# Altium schematic symbol library Main.SchLib: 196 symbols (part 3 of 4)
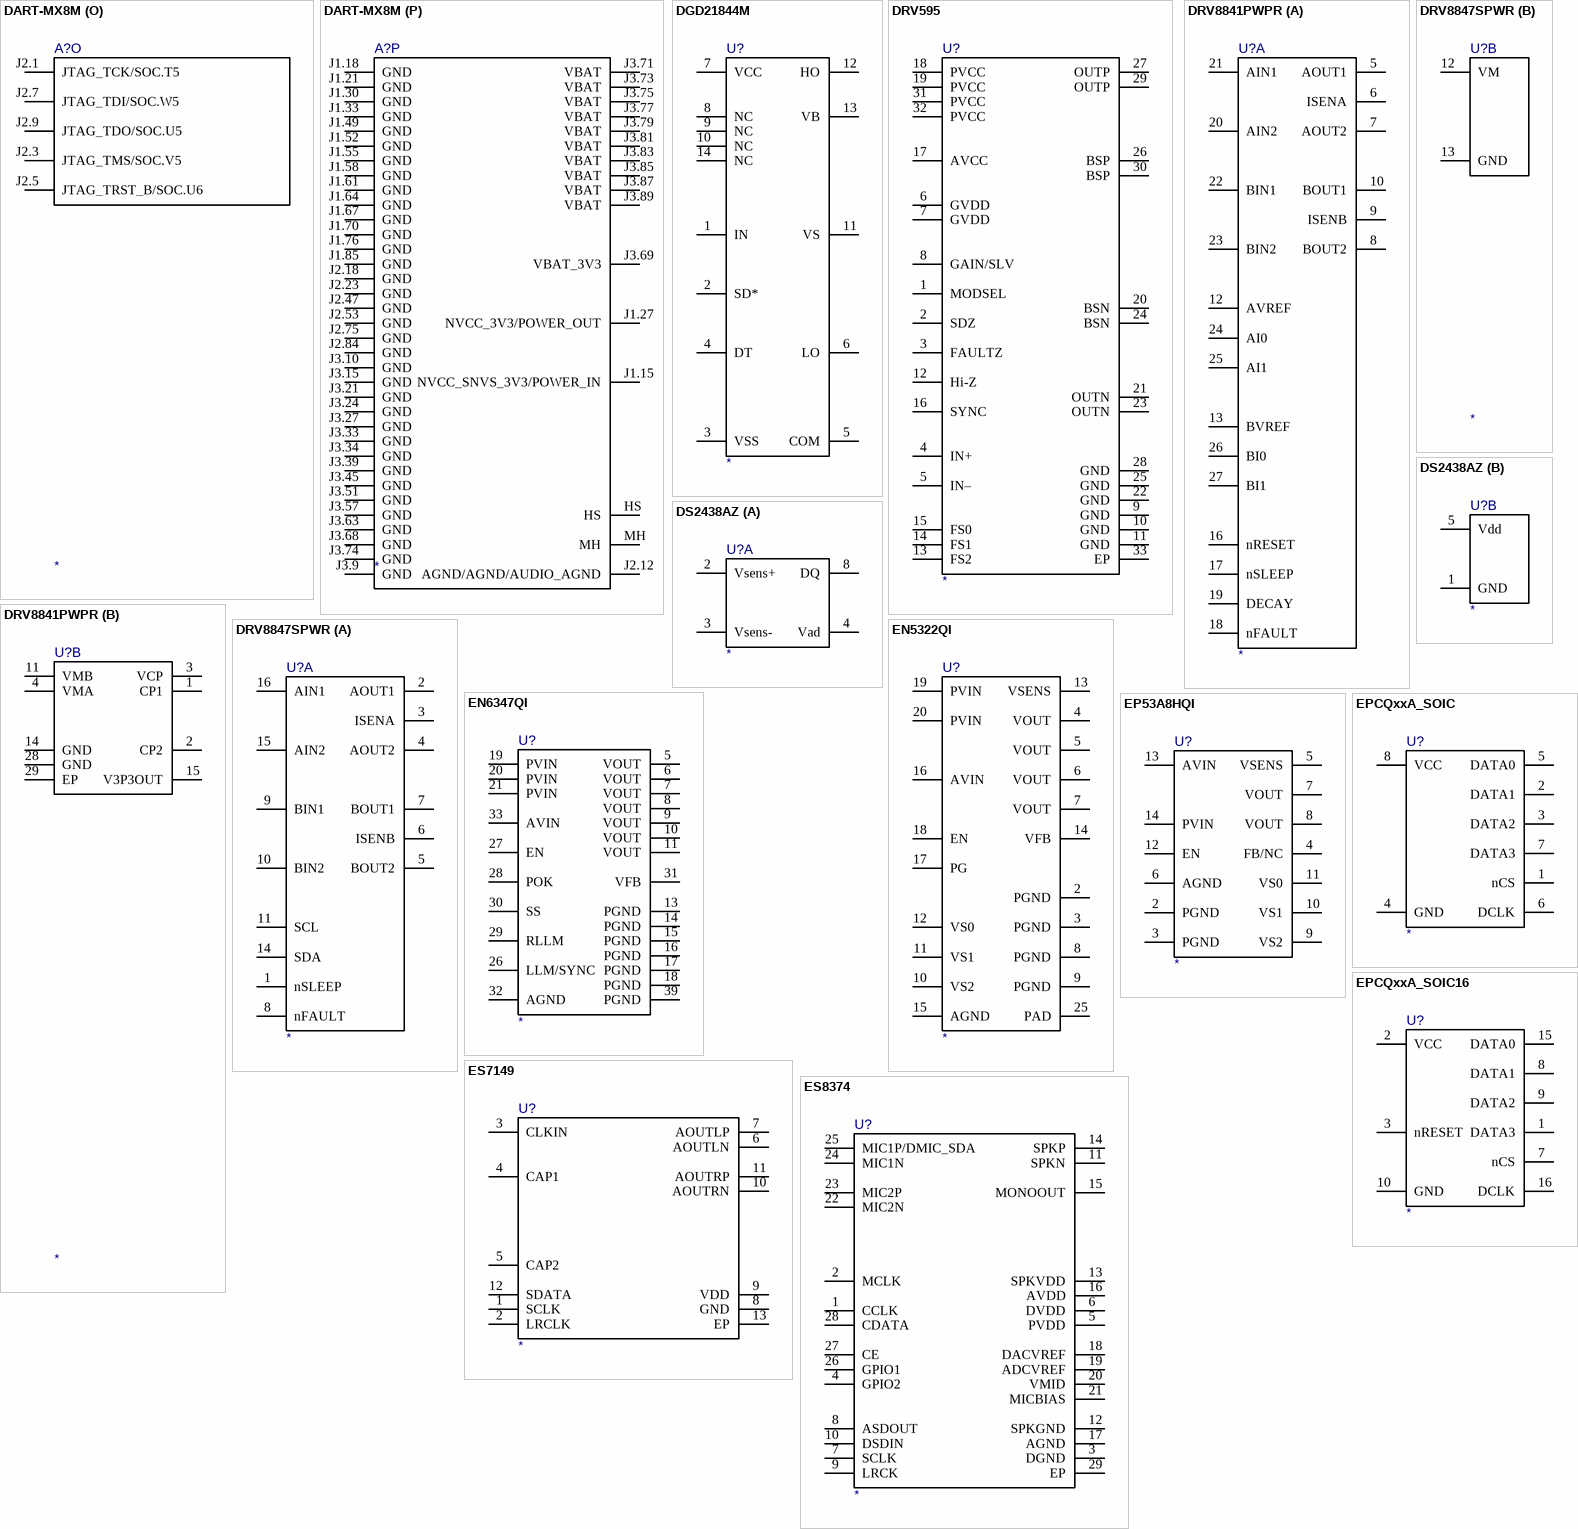
[diagram p42: symbols DART-MX8M to ES8374]

## DART-MX8M
designator A?
part A pins: J1.32 NAND_DATA01/QSPIA_DATA1/GPIO3_IO07/SOC.J20, J1.34 NAND_CEO_B/QSPIA_SSO_B/GPIO3_IO01/SOC.H19, J1.35 NAND_DATA07/QSPIB_DATA3/GPIO3_IO13/SOC.M19, J1.36 NAND_READY_B/GPIO3_IO16/SOC.K20, J1.37 NAND_DATA06/QSPIB_DATA2/GPIO3_IO12/SOC.L19, J1.38 NAND_DQS/QSPIA_DQS/GPIO3_IO14/SOC.M20, J1.39 NAND_DATA04/QSPIB_DATA0/GPIO3_IO10/SOC.L20, J1.40 NAND_ALE/QSPIA_SCLK/GPIO3_IO00/SOC.G19, J1.41 NAND_RE_B/QSPIB_DQS/GPIO3_IO15/SOC.K19, J1.42 NAND_WP_B/GPIO3_IO18/SOC.K21, J1.43 NAND_DATA05/QSPIB_DATA1/GPIO3_IO11/SOC.J22, J1.44 NAND_WE_B/GPIO3_IO17/SOC.K22, J1.45 NAND_CLE/QSPIB_SCLK/GPIO3_IO05/SOC.H21, J1.46 NAND_DATA03/QSPIA_DATA3/GPIO3_IO09/SOC.J21, J1.47 NAND_CE2_B/QSPIB_SSO_B/GPIO3_IO03/SOC.F21, J1.48 NAND_DATA00/QSPIA_DATA0/GPIO3_IO06/SOC.G20, J1.50 NAND_DATA02/QSPIA_DATA2/GPIO3_IO08/SOC.H22
part B pins: J1.20 ONOFF/SOC.W21, J1.22 PMIC_ON_REQ/SOC.V20, J1.23 BT_HOST_WA_KE/LWB5.46, J1.24 POR_B/SOC.W20, J1.25 WIFI_HOST_WAKE/LWB5.17, J1.26 PMIC_STBY_REQ/SOC.V21, J1.72 EN_VBAT_3V3, J2.11 BOOT_MODE1/SOC.V6, J2.13 BOOT_MODE0/SOC.W6
part C pins: J2.2 SAI3.RXD/GPT1_COMPARE1/SAI5_RXD0/GPIO4_IO30/HPLOUT/SOC.F3/WM8904.13, J2.4 SAI3_TXC/GPT1_COMPARE2/SAI5_RXD2/GPIO5_IO00/HPROUT/SOC.C4/WM8904.15, J2.6 SAI3_RXFS/GPT1_CAPTURE1/SAI5_RXFS/GPIO4_IO28/HPOUTFB/SOC.G4/WM8904.14, J2.8 SAI3_RXC/GPT1_CAPTURE2/SAI5_RXC/GPIO4_IO29/LINEIN1_LP/SOC.F4/WM8904.26, J2.10 SAI3_TXFS/GPT1_CLK/SAI5_RXD1/GPIO4_IO31/LINEIN1_RP/SOC.G3/WM8904.24, J2.14 SAI3_TXD/GPT1_COMPARE3/SAI5_RXD3/GPIO5J001/DMIC-CLK/SOC.C3/WM8904.1, J2.16 SAI3_MCLK/PWM4_OUT/SAI5_MCLK/GPIO5_IO02/DMIC_DATA_1V8/SOC.D3/WM8904.27, J2.34 SAI5_RXFS/SAI1_TXD0/GPIO3_IO19/SOC.N4, J2.36 SAI5_RXD0/SAI1_TXD2/GPIO3_IO21/SOC.M5, J2.38 SAI5_RXD2/SAI1_TXD4/SAI1_TXFS/SAI5_TXC/GPIO3_IO23/SOC.M4, J2.40 SAI5_RXC/SAI1_TXD1/GPIO3_IO20/SOC.L5, J2.42 SAI5_RXD1/SAI1_TXD3/SAI1_TXFS/SAI5_TXFS/GPIO3_IO22/SOC.L4, J2.44 SAI5_RXD3/SAI1_TXD5/SAI1_TXFS/SAI5_TXD0/GPIO3_IO24/SOC.K5, J2.46 SAI5_MCLK/SAI1_TXC/SAI4_MCLK/GPIO3_IO25/SOC.K4, J2.48 SAI2_RXFS/SAI5_TXFS/GPIO4_IO21/SOC.J4, J2.50 SAI2_RXC/SAI5_TXC/GPIO4_IO22/SOC.H3, J2.52 SAI2_TXFS/SAI5_TXD1/GPIO4_IO24/SOC.H4, J2.54 SAI2_MCLK/SAI5_MCLK/GPIO4_IO27/SOC.H5, J2.55 SAI1_RXFS/SAI5_RXFS/GPIO4_IO00/SOC.L1, J2.56 SAI2_TXC/SAI5_TXD2/GPIO4_IO25/SOC.J5, J2.57 SAI1_RXC/SAI5_RXC/GPIO4_IO01/SOC.K1, J2.58 SAI2_RXD0/SAI5_TXD0/GPIO4_IO23/SOC.H6, J2.59 SAI1_RXD1/SAI5_RXD1/GPIO4_IO03/BOOT_CFG01/SOC.L2, J2.60 SAI2_TXD0/SAI5_TXD3/GPIO4_IO26/SOC.G5, J2.61 SAI1_RXD0/SAI5_RXD0/GPIO4_IO02/BOOT_CFG00/SOC.K2, J2.62 SAI1_RXD3/SAI5_RXD3/GPIO4_IO05/BOOT_CFG03/SOC.J2, J2.63 SAI1_RXD2/SAI5_RXD2/GPIO4_IO04/BOOT_CFG02/SOC.H2, J2.64 SAI1_TXFS/SAI5_TXFS/GPIO4_IO10/SOC.H1, J2.65 SAI1_RXD4/SAI6_TXC/SAI6_RXC/GPIO4_IO06/BOOT_CFG04/SOC.J1, J2.66 SAI1_RXD6/SAI6_TXFS/SAI6_RXFS/GPIO4_IO08/BOOT_CFG06/SOC.G2, J2.67 SAI1_TXD1/SAI5_TXD1/GPIO4_IO13/BOOT_CFG09/SOC.E2, J2.68 SAI1_RXD7/SAI6_MCLK/SAI1_TXFS/SAI1_TXD4/GPIO4_IO09/BOOT_CFG07/SOC.G1, J2.69 SAI1_RXD5/SAI6_TXD0/SAI6_RXD0/SAI1_RXFS/GPIO4_IO07/BOOT_CFG05/SOC.F1, J2.70 SAI1_TXD0/SAI5_TXD0/GPIO4_IO12/BOOT_CFG08/SOC.F2, J2.71 SAI1_TXD5/SAI6_RXD0/SAI6_TXD0/GPIO4_IO17/BOOT_CFG13/SOC.C2, J2.72 SAI1_TXC/SAI5_TXC/GPIO4_IO11/SOC.E1, J2.73 SAI1_TXD3/SAI5_TXD3/GPIO4_IO15/BOOT_CFG11/SOC.D1, J2.74 SAI1_TXD4/SAI6_RXC/SAI6_TXC/GPIO4_IO16/BOOT_CFG12/SOC.D2, J2.76 SAI1_TXD7/SAI6_MCLK/GPIO4_IO19/BOOT_CFG15/SOC.C1, J2.78 SAI1_TXD2/SAI5_TXD2/GPIO4_IO14/BOOT_CFG10/SOC.B2, J2.80 SAI1_TXD6/SAI6_RXFS/SAI6_TXFS/GPIO4_IO18/BOOT_CFG14/SOC.B3, J2.82 SAI1_MCLK/SAI5_MCLK/SAI1_TXC/GPIO4_IO20/SOC.A3
part D pins: J1.28 SD2_RESET_B/GPIO2_IO19/SOC.R22, J1.29 SD2_WP/GPIO2_IO20/SOC.M21, J1.74 SD2_CD_B/GPIO2_IO12/SOC.L21, J1.78 SD2_DATA2/GPIO2JO17/SOC.P22/SDIOMUX, J1.80 SD2_DATA1/GPIO2_IO16/SOC.N21/SDIOMUX, J1.82 SD2_CLK/GPIO2_IO13/SOC.L22/SDIOMUX, J1.84 SD2_DATA3/GPIO2_IO18/SOC.P21/SDIOMUX, J1.86 SD2_DATA0/GPIO2_IO15/SOC.N22/SDIOMUX, J1.88 SD2_CMD/GPIO2_IO14/SOC.M22/SDIOMUX, J1.90 NVCC_SD2_1V8_3_V3/POWER_OUT
part E pins: J1.1 GPIO1_IO00/REF_CLK_32K/SOC.T6, J2.28 GPIO1_IO02/WDOG_B/SOC.R4, J3.30 GPIO1_IO11/USB2_OTG_ID/PMIC_READY/SOC.L6, J3.38 GPIO1_IO15/USB2_OTG_OC/PWM4_OUT/CLK02/SOC.J6, J3.40 GPIO1_IO13/USB1_OTG_OC/PWM2_OUT/SOC.K6, J3.48 GPIO1_IO14/USB2_OTG_PWR/PWM3_OUT/SOC.K7, J3.50 GPIO1_IO12/USB1_OTG_PWR/SOC.L7, J3.52 GPIO1_IO10/USB1_OTG_ID/SOC.M7, J3.54 GPIO1_IO03/USDHC1_VSELECT/XTAL_OK/SOC.P4, J3.58 GPIO1_IO06/SD1_CD_B/EXT_CLK3/SOC.N5, J3.60 GPIO1_IO08/ENET_1588_EVENT_0_IN/SD2_RESET_B/SOC.N7, J3.62 GPIO1_IO05/M4_NMI/PMIC_READY/SOC.P7, J3.64 GPIO1_IO01/PWM1_OUT/REF_CLK_24M/EXT_CLK2/SOC.T7
part F pins: J1.69 CSI_P1_DP3/SOC.D21, J1.71 CSI_P1_DN3/SOC.C21, J1.73 CSI_P1_DP1/SOC.D22, J1.75 CSI_P1_DN1/SOC.C22, J1.77 CSI_P1_DN2/SOC.B24, J1.79 CSI_P1_DP2/SOC.C23, J1.81 CSI_P1_DP0/SOC.B23, J1.83 CSI_P1_DN0/SOC.A23, J1.87 CSI_P1_CKP/SOC.B22, J1.89 CSI_P1_CKN/SOC.A22, J3.70 CSI_P2_CKN/SOC.A19, J3.72 CSI_P2_CKP/SOC.B19, J3.76 CSI_P2_DN3/SOC.C19, J3.78 CSI_P2_DP3/SOC.D19, J3.80 CSI_P2_DN1/SOC.A20, J3.82 CSI_P2_DP1/SOC.B20, J3.84 CSI_P2_DN0/SOC.C20, J3.86 CSI_P2_DP0/SOC.D20, J3.88 CSI_P2_DN2/SOC.A21, J3.90 CSI_P2_DP2/SOC.B21
part G pins: J1.2 ENET_TD1/GPIO1_IO20/ETH_TRX1_P/SOC.R21/AR8033.14, J1.3 ENET_TX_CTL/GPIO1_IO22/SOC.P19, J1.4 ENET_TD0/GPIO1_IO21/ETH_TRX1_N/SOC.R20/AR8033.15, J1.5 ENET_TXC/GPIO1_IO23/LED_LINK10_100/SOC.T19/AR8033.26, J1.6 ENET_TD2/GPIO1_IO19/ETH_TRXO_N/SOC.R19/AR8033.12, J1.7 ENET_RXC/GPIO1_IO25/LED_LINK1000/SOC.T20/AR8033.24, J1.8 ENET_TD3/GPIO1_IO18/ETH_TRXO_P/SOC.P20/AR8033.11, J1.9 ENET_RX_CTL/GPIO1_IO24/LED_ACT/SOC.T21/AR8033.23, J1.10 ENET_RD0/GPIO1_IO26/ETH_TRX2_P/SOC.U19/AR8033.17, J1.11 ENET_MDIO/GPIO1_IO17/SOC.N19, J1.12 ENET_RD1/GPIO1_IO27/ETH_TRX2_N/SOC.U21/AR8033.18, J1.13 ENET_MDC/GPIO1_IO16/SOC.N20, J1.14 ENET_RD2/GPIO1_IO28/ETH_TRX3_P/SOC.U20/AR8033.20, J1.16 ENET_RD3/GPIO1_IO29/ETH_TRX3_N/SOC.V19/AR8033.21, J1.31 NVCC_ENET
part H pins: J3.12 DSI_TX0_P/LVDS2_TX0_P/SOC.B17/SN65DSI84.B3, J3.14 DSI_TX0_N/LVDS2_TX0_N/SOC.A17/SN65DSI84.A3, J3.16 DSI_TX1_P/LVDS2_TX1_P/SOC.B16/SN65DSI84.B4, J3.18 DSI_TX1_N/LVDS2_TX1_N/SOC.A16/SN65DSI84.A4, J3.20 DSI_TX3_P/LVDS2_TX3_P/SOC.B15/SN65DSI84.B7, J3.22 DSI_TX3_N/LVDS2_TX3_N/SOC.A15/SN65DSI84.A7, J3.23 DSI_TX2_P/LVDS2_CLK_P/SOC.B18/SN65DSI84.B6, J3.25 DSI_TX2_N/LVDS2_CLK_N/SOC.A18/SN65DSI84.A6, J3.29 DSI_CLK_N/LVDS2_TX2_N/SOC.C16/SN65DSI84.A5, J3.31 DSI_CLK_P/LVDS2_TX2_P/SOC.D16/SN65DSI84.B5
part I pins: J3.2 LVDS1_TX0_P/SN65DSI84.C8, J3.4 LVDS1_TX0_N/SN65DSI84.C9, J3.5 LVDS1_TX2_P/SN65DSI84.E8, J3.6 LVDS1_TX1_P/SN65DSI84.D8, J3.7 LVDS1_TX2_N/SN65DSI84.E9, J3.8 LVDS1_TX1_N/SN65DSI84.D9, J3.11 LVDS1_CLK_P/SN65DSI84.F8, J3.13 LVDS1_CLK_N/SN65DSI84.F9, J3.17 LVDS1_TX3_P/SN65DSI84.G8, J3.19 LVDS1_TX3_N/SN65DSI84.G9
part J pins: J2.15 HDMI_DDC_SCL/SOC.R3, J2.17 HDMI_DDC_SDA/SOC.P3, J2.19 HDMI_CEC/SOC.W3, J2.21 HDMI_HPD/SOC.W2, J2.25 HDMI_AUX_P/SOC.V1, J2.27 HDMI_AUX_N/SOC.V2, J2.29 HDMI_TX_M_LN_1/SOC.U1, J2.31 HDMI_TX_P_LN_1/SOC.U2, J2.33 HDMI_TX_P_LN_0/SOC.T1, J2.35 HDMI_TX_M_LN_0/SOC.T2, J2.37 HDMI_REFCLK_N/SOC.R1, J2.39 HDMI_REFCLK_P/SOC.R2, J2.41 VDD_PHY_1V8/POWER_OUT, J2.43 HDMI_TX_P_LN_2/SOC.N2, J2.45 HDMI_TX_M_LN_2/SOC.N1, J2.49 HDMI_TX_P_LN_3/SOC.M1, J2.51 HDMI_TX_M_LN_3/SOC.M2
part K pins: J2.20 ECSPI2_MOSI/UART4_TXD/GPIO5_IO11/SOC.E5, J2.22 ECSPI2_MISO/UART4_CTS_B/GPIO5_IO12/SOC.B5, J2.24 ECSPI2_SCLK/UART4_RXD/GPIO5_IO10/SOC.C5, J2.26 ECSPI2_SS0/UART4_RTS_B/GPIO5_IO13/SOC.A5, J2.77 ECSPI1_SCLK/UART3_RX/GPIO5_IO06/SOC.D5, J2.79 ECSPI1_SS0/UART3_RTS_B/GPIO5_IO09/SOC.D4, J2.81 ECSPI1_MISO/UART3_CTS_B/GPIO5_IO08/SOC.B4, J2.83 ECSPI1_MOSI/UART3_TX/GPIO5_IO07/SOC.A4
part L pins: J3.26 USB2_VBUS/SOC.D9, J3.35 USB2_RXN/SOC.B8, J3.37 USB2_RXP/SOC.A8, J3.41 USB2_TXN/SOC.B9, J3.43 USB2_TXP/SOC.A9, J3.44 USB2_ID/SOC.C9, J3.47 USB2_DP/SOC.A10, J3.49 USB2_DN/SOC.B10, J3.53 USB1_RXN/SOC.B12, J3.55 USB1_RXP/SOC.A12, J3.56 USB1_ID/SOC.C14, J3.59 USB1_TXN/SOC.B13, J3.61 USB1_TXP/SOC.A13, J3.65 USB1_DP/SOC.A14, J3.66 USB1_VBUS/SOC.D14, J3.67 USB1_DN/SOC.B14
part M pins: J1.51 PCIE1_REF_CLKN/SOC.K24, J1.53 PCIE1_REF_CLKP/SOC.K25, J1.54 PCIE2_REF_CLKN/SOC.F24, J1.56 PCIE2_REF_CLKP/SOC.F25, J1.57 PCIE1_TXN/SOC.J24, J1.59 PCIE1_TXP/SOC.J25, J1.60 PCIE1_RXN/SOC.H24, J1.62 PCIE1_RXP/SOC.H25, J1.63 PCIE2_RXN/SOC.D24, J1.65 PCIE2_RXP/SOC.D25, J1.66 PCIE2_TXN/SOC.E24, J1.68 PCIE2_TXP/SOC.E25
part N pins: J1.17 I2C4_SCL/PWM2_OUT/PCIE1_CLKREQ_B/GPIO5_IO20/SOC.F8, J1.19 I2C4_SDA/PWM1_OUT/PCIE2_CLKREQ_B/GPIO5_IO21/SOC.F9, J2.30 I2C2_SDA/ENET_1588_EVEN_T1_OUT/GPIO5_IO17/SOC.F7, J2.32 I2C2_SCL/ENET_1588_EVEN_T1_IN/GPIO5_IO16/SOC.G7, J2.85 UART2_RXD/ECSPI3_MISO/GPIO5_IO24/SOC.B6, J2.86 UART2_TXD/ECSPI3_SSO/GPIO5_IO25/SOC.D6, J2.87 UART3_RXD/UART1_CTS_B/GPIO5_IO26/SOC.A6, J2.88 UART1_RXD/ECSPI3_SCLK/GPIO5_IO22/SOC.C7, J2.89 UART3_TXD/UART1_RTS_B/GPIO5_IO27/SOC.B7, J2.90 UART1_TXD/ECSPI3_MOSI/GPIO5_IO23/SOC.A7, J3.1 UART4_TXD/UART2_RTS_B/PCIE2_CLKREQ_B/GPIO5_IO29/SOC.D7, J3.3 UART4_RXD/UART2_CTS_B/PCIE1_CLKREQ_B/GPIO5_IO28/SOC.C6, J3.28 SPDIF_RX/PWM2_OUT/GPIO5_IO04/SOC.G6, J3.32 SPDIF_EXT_CLK/PWM1_OUT/GPIO5_IO05/SOC.E6, J3.36 SPDIF_TX/PWM3_OUT/GPIO5_IO03/SOC.F6, J3.42 I2C3_SDA/PWM3_OUT/GPT3_CLK/GPIO5_IO19/SOC.E9, J3.46 I2C3_SCL/PWM4_OUT/GPT2_CLK/GPIO5_IO18/SOC.G8
part O pins: J2.1 JTAG_TCK/SOC.T5, J2.3 JTAG_TMS/SOC.V5, J2.5 JTAG_TRST_B/SOC.U6, J2.7 JTAG_TDI/SOC.W5, J2.9 JTAG_TDO/SOC.U5
part P pins: HS, J1.15 NVCC_SNVS_3V3/POWER_IN, J1.18 GND, J1.21 GND, J1.27 NVCC_3V3/POWER_OUT, J1.30 GND, J1.33 GND, J1.49 GND, J1.52 GND, J1.55 GND, J1.58 GND, J1.61 GND, J1.64 GND, J1.67 GND, J1.70 GND, J1.76 GND, J1.85 GND, J2.12 AGND/AGND/AUDIO_AGND, J2.18 GND, J2.23 GND, J2.47 GND, J2.53 GND, J2.75 GND, J2.84 GND, J3.9 GND, J3.10 GND, J3.15 GND, J3.21 GND, J3.24 GND, J3.27 GND, J3.33 GND, J3.34 GND, J3.39 GND, J3.45 GND, J3.51 GND, J3.57 GND, J3.63 GND, J3.68 GND, J3.69 VBAT_3V3, J3.71 VBAT, J3.73 VBAT, J3.74 GND, J3.75 VBAT, J3.77 VBAT, J3.79 VBAT, J3.81 VBAT, J3.83 VBAT, J3.85 VBAT, J3.87 VBAT, J3.89 VBAT, MH

## DGD21844M
designator U?
pins: 1 IN, 2 SD*, 3 VSS, 4 DT, 5 COM, 6 LO, 7 VCC, 8 NC, 9 NC, 10 NC, 11 VS, 12 HO, 13 VB, 14 NC

## DRV595
designator U?
pins: 1 MODSEL, 2 SDZ, 3 FAULTZ, 4 IN+, 5 IN–, 6 GVDD, 7 GVDD, 8 GAIN/SLV, 9 GND, 10 GND, 11 GND, 12 Hi-Z, 13 FS2, 14 FS1, 15 FS0, 16 SYNC, 17 AVCC, 18 PVCC, 19 PVCC, 20 BSN, 21 OUTN, 22 GND, 23 OUTN, 24 BSN, 25 GND, 26 BSP, 27 OUTP, 28 GND, 29 OUTP, 30 BSP, 31 PVCC, 32 PVCC, 33 EP

## DRV8841PWPR
designator U?
part A pins: 5 AOUT1, 6 ISENA, 7 AOUT2, 8 BOUT2, 9 ISENB, 10 BOUT1, 12 AVREF, 13 BVREF, 16 nRESET, 17 nSLEEP, 18 nFAULT, 19 DECAY, 20 AIN2, 21 AIN1, 22 BIN1, 23 BIN2, 24 AI0, 25 AI1, 26 BI0, 27 BI1
part B pins: 1 CP1, 2 CP2, 3 VCP, 4 VMA, 11 VMB, 14 GND, 15 V3P3OUT, 28 GND, 29 EP

## DRV8847SPWR
designator U?
part A pins: 1 nSLEEP, 2 AOUT1, 3 ISENA, 4 AOUT2, 5 BOUT2, 6 ISENB, 7 BOUT1, 8 nFAULT, 9 BIN1, 10 BIN2, 11 SCL, 14 SDA, 15 AIN2, 16 AIN1
part B pins: 12 VM, 13 GND

## DS2438AZ
designator U?
part A pins: 2 Vsens+, 3 Vsens-, 4 Vad, 8 DQ
part B pins: 1 GND, 5 Vdd

## EN5322QI
designator U?
pins: 2 PGND (power), 3 PGND (power), 4 VOUT, 5 VOUT, 6 VOUT, 7 VOUT, 8 PGND (power), 9 PGND (power), 10 VS2, 11 VS1, 12 VS0, 13 VSENS, 14 VFB, 15 AGND (power), 16 AVIN, 17 PG, 18 EN, 19 PVIN, 20 PVIN, 25 PAD (power)

## EN6347QI
designator U?
pins: 5 VOUT, 6 VOUT, 7 VOUT, 8 VOUT, 9 VOUT, 10 VOUT, 11 VOUT, 13 PGND, 14 PGND, 15 PGND, 16 PGND, 17 PGND, 18 PGND, 19 PVIN, 20 PVIN, 21 PVIN, 26 LLM/SYNC, 27 EN, 28 POK, 29 RLLM, 30 SS, 31 VFB, 32 AGND, 33 AVIN, 39 PGND

## EP53A8HQI
designator U?
pins: 2 PGND (power), 3 PGND (power), 4 FB/NC, 5 VSENS, 6 AGND (power), 7 VOUT, 8 VOUT, 9 VS2, 10 VS1, 11 VS0, 12 EN, 13 AVIN, 14 PVIN

## EPCQxxA_SOIC
designator U?
pins: 1 nCS, 2 DATA1, 3 DATA2, 4 GND, 5 DATA0, 6 DCLK, 7 DATA3, 8 VCC

## EPCQxxA_SOIC16
designator U?
pins: 1 DATA3, 2 VCC, 3 nRESET, 7 nCS, 8 DATA1, 9 DATA2, 10 GND, 15 DATA0, 16 DCLK

## ES7149
designator U?
pins: 1 SCLK, 2 LRCLK, 3 CLKIN, 4 CAP1, 5 CAP2, 6 AOUTLN, 7 AOUTLP, 8 GND, 9 VDD, 10 AOUTRN, 11 AOUTRP, 12 SDATA, 13 EP

## ES8374
designator U?
pins: 1 CCLK, 2 MCLK, 3 DGND, 4 GPIO2, 5 PVDD, 6 DVDD, 7 SCLK, 8 ASDOUT, 9 LRCK, 10 DSDIN, 11 SPKN, 12 SPKGND, 13 SPKVDD, 14 SPKP, 15 MONOOUT, 16 AVDD, 17 AGND, 18 DACVREF, 19 ADCVREF, 20 VMID, 21 MICBIAS, 22 MIC2N, 23 MIC2P, 24 MIC1N, 25 MIC1P/DMIC_SDA, 26 GPIO1, 27 CE, 28 CDATA, 29 EP

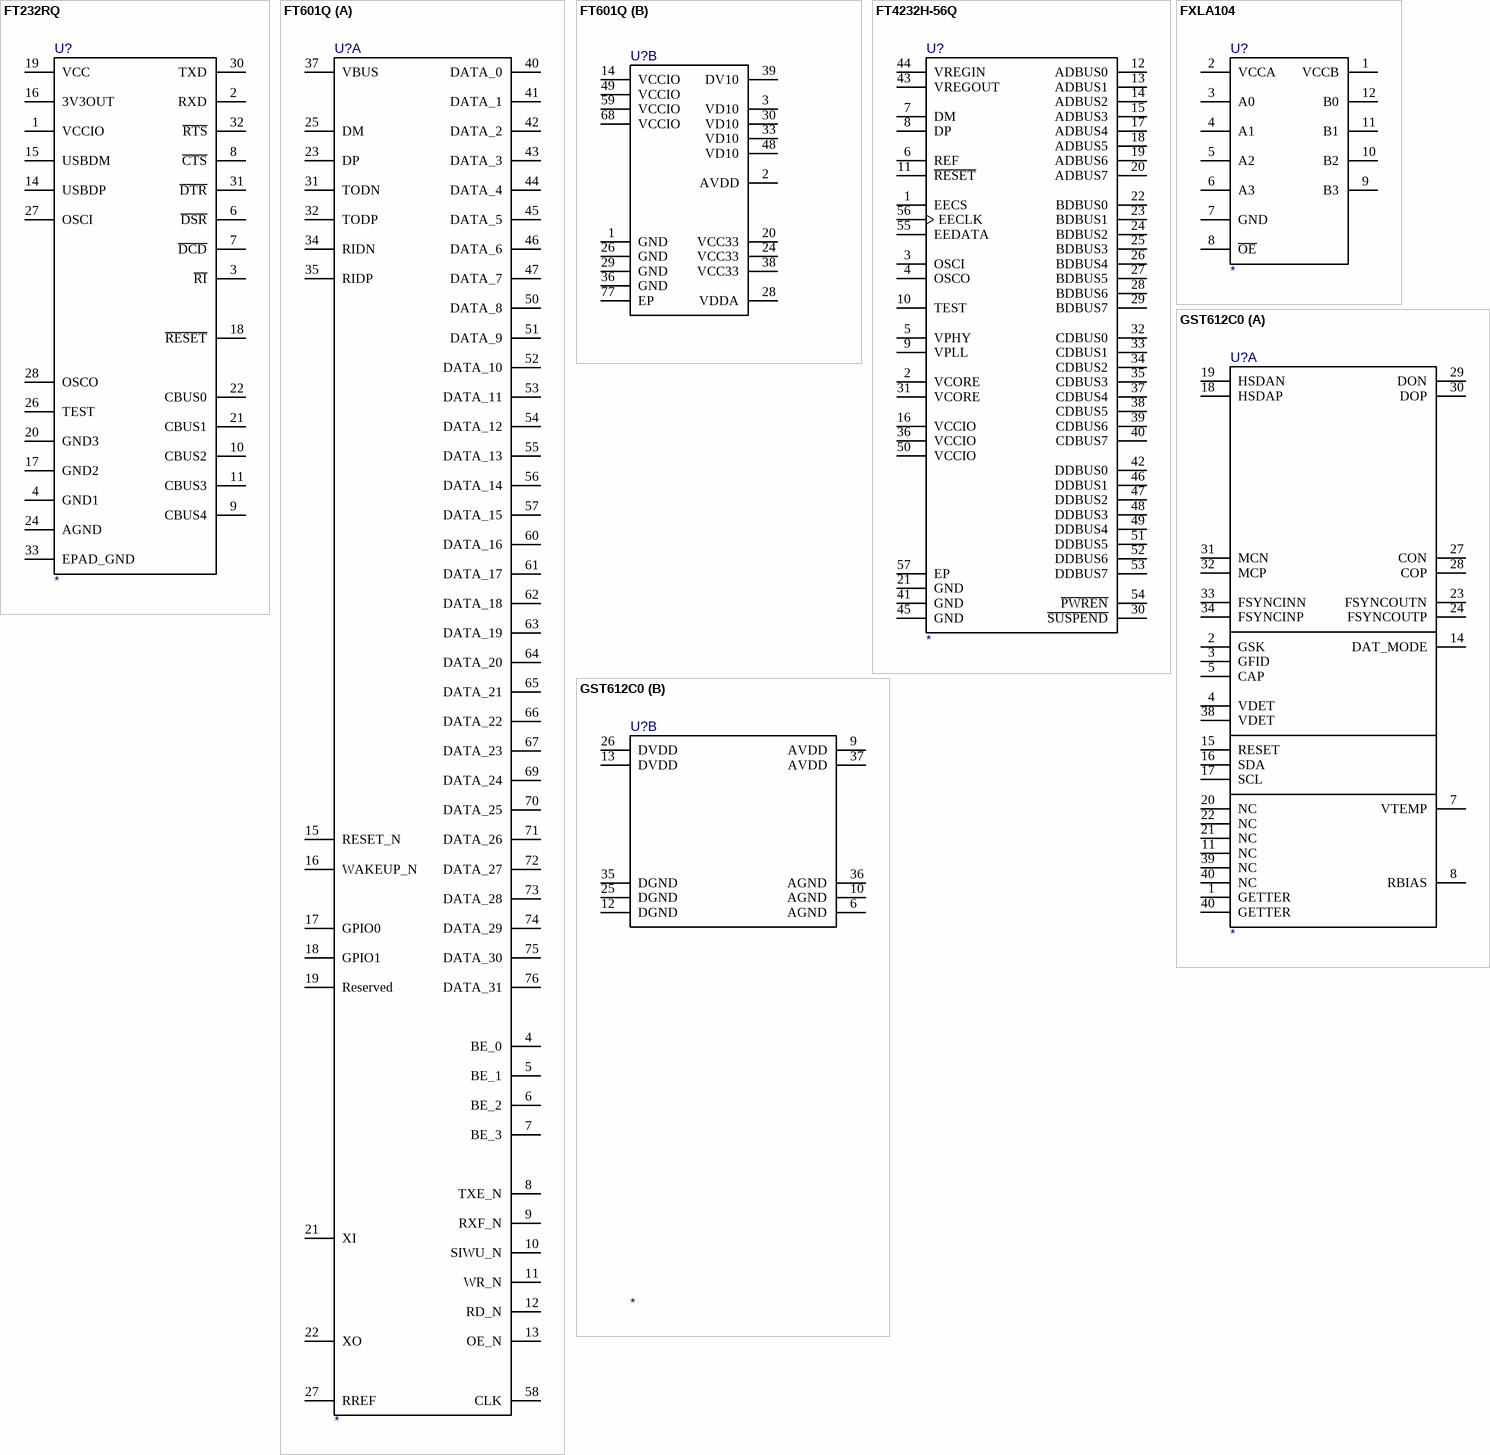
[diagram p25: symbols FT232RQ to GST612C0]

## FT232RQ
designator U?
pins: 1 VCCIO, 2 RXD, 3 ~{RI}, 4 GND1, 6 ~{DSR}, 7 ~{DCD}, 8 ~{CTS}, 9 CBUS4, 10 CBUS2, 11 CBUS3, 14 USBDP, 15 USBDM, 16 3V3OUT, 17 GND2, 18 ~{RESET}, 19 VCC, 20 GND3, 21 CBUS1, 22 CBUS0, 24 AGND, 26 TEST, 27 OSCI, 28 OSCO, 30 TXD, 31 ~{DTR}, 32 ~{RTS}, 33 EPAD_GND

## FT601Q
designator U?
part A pins: 4 BE_0 "Parallel FIFO bus byte enable I/O bit 0.", 5 BE_1 "Parallel FIFO bus byte enable I/O bit 1.", 6 BE_2 "Parallel FIFO bus byte enable I/O bit 2.", 7 BE_3 "Parallel FIFO bus byte enable I/O bit 3.", 8 TXE_N "245 Synchronous FIFO mode: Transmit FIFO Empty output signal. The signal indicates there is a minimum of 1 byte of space available to write to. Only write to the FIFO when this signal is logic 0. Multi-Channel FIFO mode: Status Valid output signal (optional).", 9 RXF_N "245 Synchronous FIFO mode: Receive FIFO Full output signal. The signal indicates there is a minimum of 1 byte of data available to read. Only read from the FIFO when this signal is logic 0. Multi-Channel FIFO mode: Data Receive Acknowledge output signal.", 10 SIWU_N "Reserved. Add external pull up in normal operation.", 11 WR_N "245 Synchronous FIFO mode: Write Enable input signal. Multi-Channel FIFO mode: Data Transaction Request input signal. The signal is active low.", 12 RD_N "245 Synchronous FIFO mode: Read Enable input signal. The signal is active low.", 13 OE_N "245 Synchronous FIFO mode: Data Output Enable input signal. The signal is active low.", 15 RESET_N "Chip Reset input, Active low.", 16 WAKEUP_N "Suspend/Remote Wakeup pin by default Low when USB is active, high when USB is in suspend. Application can drive this pin low in in USB suspend to generate a remote wakeup signal to the USB host.", 17 GPIO0 "Configurable GPIO port0.", 18 GPIO1 "Configurable GPIO portl.", 19 Reserved "Do not connect.", 21 XI "Crystal input. This terminal is the crystal input for the internal oscillator.", 22 XO "Crystal Output. This terminal is the crystal output for the internal oscillator.", 23 DP "High-speed USB differential transceiver (positive)", 25 DM "High-speed USB differential transceiver (negative)", 27 RREF "PHY reference resistor input pin. Connect 1.6 kOhms 1% resistor to ground, provides reference voltage to USB2 PHY.", 31 TODN "Super Speed USB transmitter differential pair (negative)", 32 TODP "Super Speed USB transmitter differential pair (positive)", 34 RIDN "Super Speed USB receiver differential pair (negative)", 35 RIDP "Super Speed USB receiver differential pair (positive)", 37 VBUS "USB BUS power input.", 40 DATA_0 "Parallel FIFO bus data I/O bit 0.", 41 DATA_1 "Parallel FIFO bus data I/O bit 1.", 42 DATA_2 "Parallel FIFO bus data I/O bit 2.", 43 DATA_3 "Parallel FIFO bus data I/O bit 3.", 44 DATA_4 "Parallel FIFO bus data I/O bit 4.", 45 DATA_5 "Parallel FIFO bus data I/O bit 5.", 46 DATA_6 "Parallel FIFO bus data I/O bit 6.", 47 DATA_7 "Parallel FIFO bus data I/O bit 7.", 50 DATA_8 "Parallel FIFO bus data I/O bit 8.", 51 DATA_9 "Parallel FIFO bus data I/O bit 9.", 52 DATA_10 "Parallel FIFO bus data I/O bit 10.", 53 DATA_11 "Parallel FIFO bus data I/O bit 11.", 54 DATA_12 "Parallel FIFO bus data I/O bit 12.", 55 DATA_13 "Parallel FIFO bus data I/O bit 13.", 56 DATA_14 "Parallel FIFO bus data I/O bit 14.", 57 DATA_15 "Parallel FIFO bus data I/O bit 15.", 58 CLK "Parallel FIFO bus clock output pin to FIFO bus master, the Frequency can be configured as 66Mhz or 100 Mhz for both FIFO bus modes.", 60 DATA_16 "Parallel FIFO bus data I/O bit 16.", 61 DATA_17 "Parallel FIFO bus data I/O bit 17.", 62 DATA_18 "Parallel FIFO bus data I/O bit 18.", 63 DATA_19 "Parallel FIFO bus data I/O bit 19.", 64 DATA_20 "Parallel FIFO bus data I/O bit 20.", 65 DATA_21 "Parallel FIFO bus data I/O bit 21.", 66 DATA_22 "Parallel FIFO bus data I/O bit 22.", 67 DATA_23 "Parallel FIFO bus data I/O bit 23.", 69 DATA_24 "Parallel FIFO bus data I/O bit 24.", 70 DATA_25 "Parallel FIFO bus data I/O bit 25.", 71 DATA_26 "Parallel FIFO bus data I/O bit 26.", 72 DATA_27 "Parallel FIFO bus data I/O bit 27.", 73 DATA_28 "Parallel FIFO bus data I/O bit 28.", 74 DATA_29 "Parallel FIFO bus data I/O bit 29.", 75 DATA_30 "Parallel FIFO bus data I/O bit 30.", 76 DATA_31 "Parallel FIFO bus data I/O bit 31."
part B pins: 1 GND "Ground", 2 AVDD "+ 1.0V power input for PLL.", 3 VD10 "+ 1.0V core voltage input.", 14 VCCIO "Power input for I/O block, supports +1.8/+2.5/+3.3V.", 20 VCC33 "+3.3V power input for chip and internal LDO.", 24 VCC33 "+3.3V power input for chip and internal LDO.", 26 GND "Ground", 28 VDDA "+3.3V power input for USB2.0 and USB3.0 PHYs.", 29 GND "Ground", 30 VD10 "+ 1.0V core voltage input.", 33 VD10 "+ 1.0V core voltage input.", 36 GND "Ground", 38 VCC33 "+3.3V power input for chip and internal LDO.", 39 DV10 "+ 1.0V power output from internal LDO. Connecting to VD10 and AVDD, with a 4.7uF cap to ground is recommended.", 48 VD10 "+ 1.0V core voltage input.", 49 VCCIO "Power input for I/O block, supports +1.8/+2.5/+3.3V.", 59 VCCIO "Power input for I/O block, supports +1.8/+2.5/+3.3V.", 68 VCCIO "Power input for I/O block, supports +1.8/+2.5/+3.3V.", 77 EP "Exposed Pad"

## FT4232H-56Q
designator U?
pins: 1 EECS, 2 VCORE, 3 OSCI, 4 OSCO, 5 VPHY, 6 REF, 7 DM, 8 DP, 9 VPLL, 10 TEST, 11 ~{RESET}, 12 ADBUS0, 13 ADBUS1, 14 ADBUS2, 15 ADBUS3, 16 VCCIO, 17 ADBUS4, 18 ADBUS5, 19 ADBUS6, 20 ADBUS7, 21 GND, 22 BDBUS0, 23 BDBUS1, 24 BDBUS2, 25 BDBUS3, 26 BDBUS4, 27 BDBUS5, 28 BDBUS6, 29 BDBUS7, 30 ~{SUSPEND}, 31 VCORE, 32 CDBUS0, 33 CDBUS1, 34 CDBUS2, 35 CDBUS3, 36 VCCIO, 37 CDBUS4, 38 CDBUS5, 39 CDBUS6, 40 CDBUS7, 41 GND, 42 DDBUS0, 43 VREGOUT, 44 VREGIN, 45 GND, 46 DDBUS1, 47 DDBUS2, 48 DDBUS3, 49 DDBUS4, 50 VCCIO, 51 DDBUS5, 52 DDBUS6, 53 DDBUS7, 54 ~{PWREN}, 55 EEDATA, 56 EECLK, 57 EP

## FXLA104
designator U?
pins: 1 VCCB, 2 VCCA, 3 A0, 4 A1, 5 A2, 6 A3, 7 GND, 8 ~{OE}, 9 B3, 10 B2, 11 B1, 12 B0

## GST612C0
designator U?
part A pins: 1 GETTER, 2 GSK, 3 GFID, 4 VDET, 5 CAP, 7 VTEMP, 8 RBIAS, 11 NC, 14 DAT_MODE, 15 RESET, 16 SDA, 17 SCL, 18 HSDAP, 19 HSDAN, 20 NC, 21 NC, 22 NC, 23 FSYNCOUTN, 24 FSYNCOUTP, 27 CON, 28 COP, 29 DON, 30 DOP, 31 MCN, 32 MCP, 33 FSYNCINN, 34 FSYNCINP, 38 VDET, 39 NC, 40 GETTER, 40 NC
part B pins: 6 AGND, 9 AVDD, 10 AGND, 12 DGND, 13 DVDD, 25 DGND, 26 DVDD, 35 DGND, 36 AGND, 37 AVDD

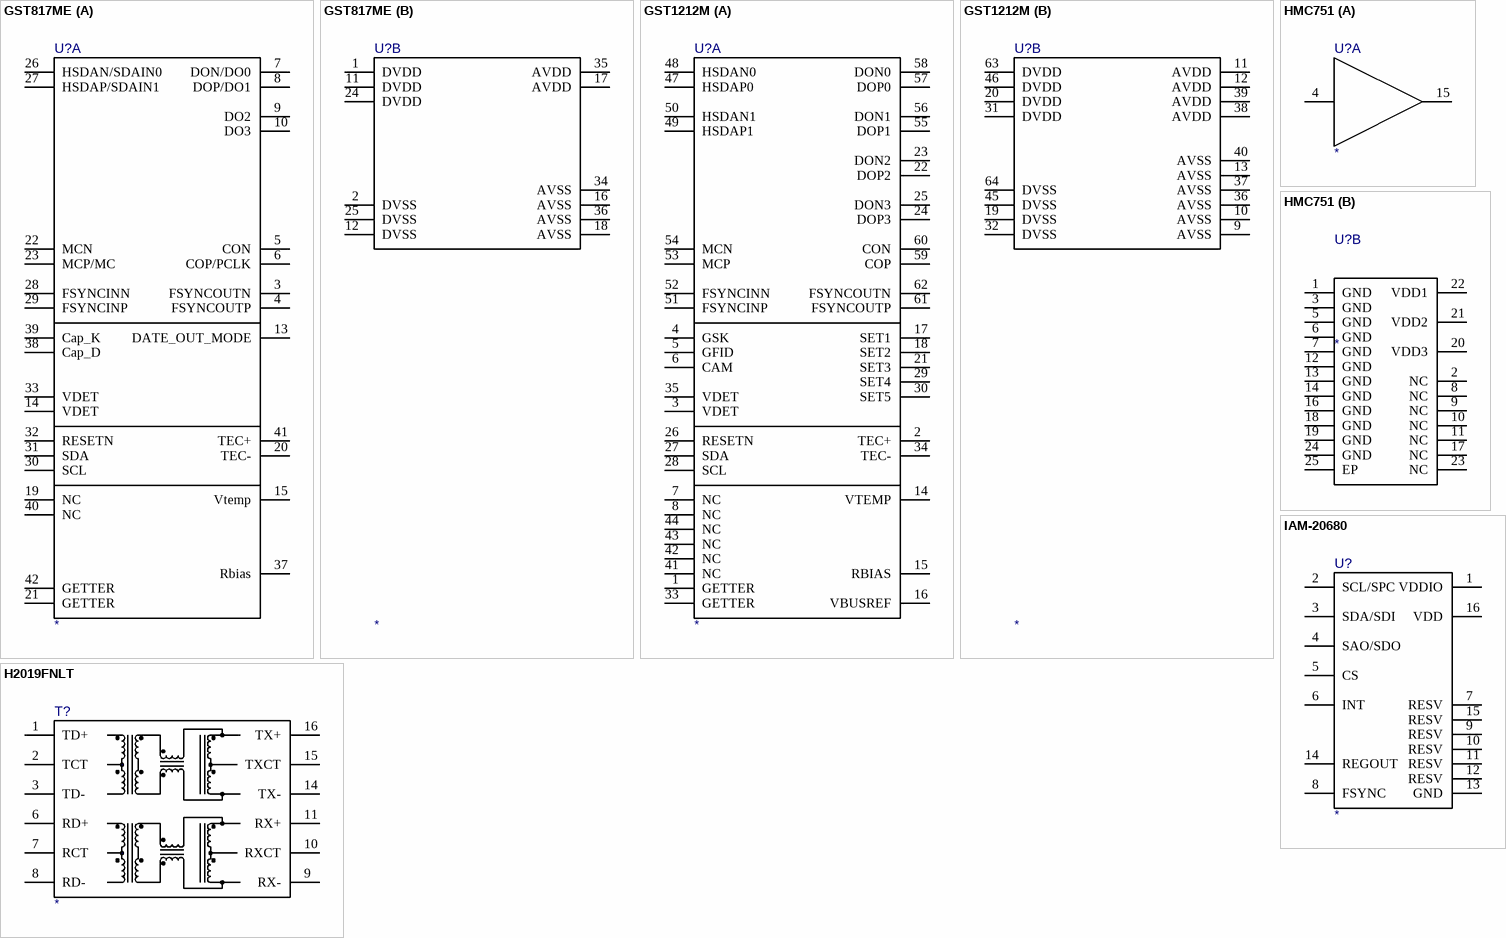
[diagram p26: symbols GST817ME to IAM-20680]

## GST817ME
designator U?
part A pins: 3 FSYNCOUTN, 4 FSYNCOUTP, 5 CON, 6 COP/PCLK, 7 DON/DO0, 8 DOP/DO1, 9 DO2, 10 DO3, 13 DATE_OUT_MODE, 14 VDET, 15 Vtemp, 19 NC, 20 TEC-, 21 GETTER, 22 MCN, 23 MCP/MC, 26 HSDAN/SDAIN0, 27 HSDAP/SDAIN1, 28 FSYNCINN, 29 FSYNCINP, 30 SCL, 31 SDA, 32 RESETN, 33 VDET, 37 Rbias, 38 Cap_D, 39 Cap_K, 40 NC, 41 TEC+, 42 GETTER
part B pins: 1 DVDD, 2 DVSS, 11 DVDD, 12 DVSS, 16 AVSS, 17 AVDD, 18 AVSS, 24 DVDD, 25 DVSS, 34 AVSS, 35 AVDD, 36 AVSS

## GST1212M
designator U?
part A pins: 1 GETTER, 2 TEC+, 3 VDET, 4 GSK, 5 GFID, 6 CAM, 7 NC, 8 NC, 14 VTEMP, 15 RBIAS, 16 VBUSREF, 17 SET1, 18 SET2, 21 SET3, 22 DOP2, 23 DON2, 24 DOP3, 25 DON3, 26 RESETN, 27 SDA, 28 SCL, 29 SET4, 30 SET5, 33 GETTER, 34 TEC-, 35 VDET, 41 NC, 42 NC, 43 NC, 44 NC, 47 HSDAP0, 48 HSDAN0, 49 HSDAP1, 50 HSDAN1, 51 FSYNCINP, 52 FSYNCINN, 53 MCP, 54 MCN, 55 DOP1, 56 DON1, 57 DOP0, 58 DON0, 59 COP, 60 CON, 61 FSYNCOUTP, 62 FSYNCOUTN
part B pins: 9 AVSS, 10 AVSS, 11 AVDD, 12 AVDD, 13 AVSS, 19 DVSS, 20 DVDD, 31 DVDD, 32 DVSS, 36 AVSS, 37 AVSS, 38 AVDD, 39 AVDD, 40 AVSS, 45 DVSS, 46 DVDD, 63 DVDD, 64 DVSS

## H2019FNLT
designator T?
pins: 1 TD+, 2 TCT, 3 TD-, 6 RD+, 7 RCT, 8 RD-, 9 RX-, 10 RXCT, 11 RX+, 14 TX-, 15 TXCT, 16 TX+

## HMC751
designator U?
part A pins: 4 RFIN, 15 RFOUT
part B pins: 1 GND, 2 NC, 3 GND, 5 GND, 6 GND, 7 GND, 8 NC, 9 NC, 10 NC, 11 NC, 12 GND, 13 GND, 14 GND, 16 GND, 17 NC, 18 GND, 19 GND, 20 VDD3, 21 VDD2, 22 VDD1, 23 NC, 24 GND, 25 EP

## IAM-20680
designator U?
pins: 1 VDDIO "Digital I/O supply voltage.", 2 SCL/SPC "PC serial clock (SCL); SPI serial clock (SPC).", 3 SDA/SDI "PC serial data (SDA); SPI serial data input (SDI).", 4 SAO/SDO "PC slave address LSB (SAO); SPI serial data output (SDO).", 5 CS "Chip select (0 = SPI mode; 1 = PC mode).", 6 INT "Interrupt digital output (totem pole or open-drain).", 7 RESV "Reserved. Do not connect.", 8 FSYNC "Synchronization digital input (optional). Connect to GND if unused.", 9 RESV "Reserved. Connect to GND.", 10 RESV "Reserved. Connect to GND.", 11 RESV "Reserved. Connect to GND.", 12 RESV "Reserved. Connect to GND.", 13 GND "Connect to GND.", 14 REGOUT "Regulator filter capacitor connection.", 15 RESV "Reserved. Connect to GND.", 16 VDD "Power Supply."

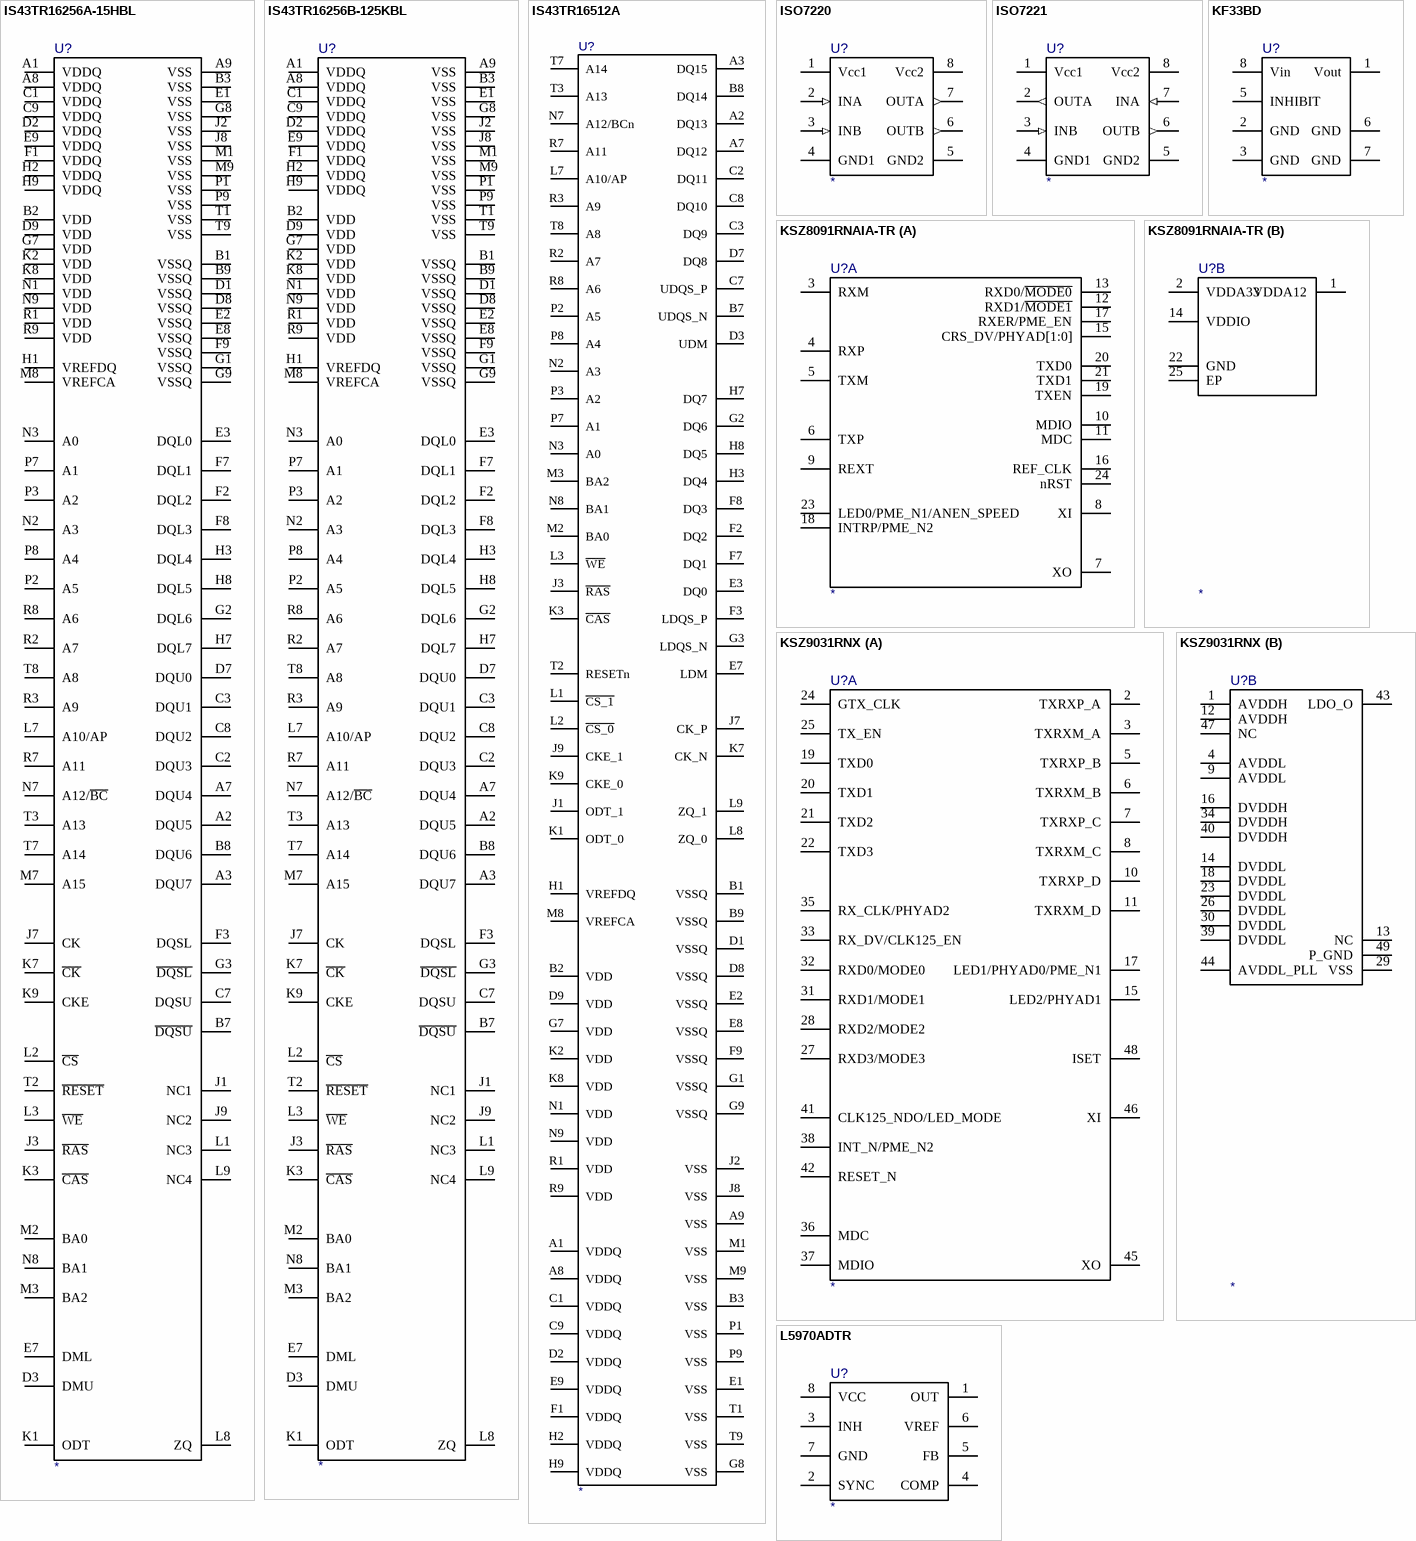
[diagram p27: symbols IS43TR16256A-15HBL to L5970ADTR]

## IS43TR16256A-15HBL
designator U?
pins: A1 VDDQ, A2 DQU5, A3 DQU7, A7 DQU4, A8 VDDQ, A9 VSS, B1 VSSQ, B2 VDD, B3 VSS, B7 ~{DQSU}, B8 DQU6, B9 VSSQ, C1 VDDQ, C2 DQU3, C3 DQU1, C7 DQSU, C8 DQU2, C9 VDDQ, D1 VSSQ, D2 VDDQ, D3 DMU, D7 DQU0, D8 VSSQ, D9 VDD, E1 VSS, E2 VSSQ, E3 DQL0, E7 DML, E8 VSSQ, E9 VDDQ, F1 VDDQ, F2 DQL2, F3 DQSL, F7 DQL1, F8 DQL3, F9 VSSQ, G1 VSSQ, G2 DQL6, G3 ~{DQSL}, G7 VDD, G8 VSS, G9 VSSQ, H1 VREFDQ, H2 VDDQ, H3 DQL4, H7 DQL7, H8 DQL5, H9 VDDQ, J1 NC1, J2 VSS, J3 ~{RAS}, J7 CK, J8 VSS, J9 NC2, K1 ODT, K2 VDD, K3 ~{CAS}, K7 ~{CK}, K8 VDD, K9 CKE, L1 NC3, L2 ~{CS}, L3 ~{WE}, L7 A10/AP, L8 ZQ, L9 NC4, M1 VSS, M2 BA0, M3 BA2, M7 A15, M8 VREFCA, M9 VSS, N1 VDD, N2 A3, N3 A0, N7 A12/~{BC}, N8 BA1, N9 VDD, P1 VSS, P2 A5, P3 A2, P7 A1, P8 A4, P9 VSS, R1 VDD, R2 A7, R3 A9, R7 A11, R8 A6, R9 VDD, T1 VSS, T2 ~{RESET}, T3 A13, T7 A14, T8 A8, T9 VSS

## IS43TR16256B-125KBL
designator U?
pins: A1 VDDQ, A2 DQU5, A3 DQU7, A7 DQU4, A8 VDDQ, A9 VSS, B1 VSSQ, B2 VDD, B3 VSS, B7 ~{DQSU}, B8 DQU6, B9 VSSQ, C1 VDDQ, C2 DQU3, C3 DQU1, C7 DQSU, C8 DQU2, C9 VDDQ, D1 VSSQ, D2 VDDQ, D3 DMU, D7 DQU0, D8 VSSQ, D9 VDD, E1 VSS, E2 VSSQ, E3 DQL0, E7 DML, E8 VSSQ, E9 VDDQ, F1 VDDQ, F2 DQL2, F3 DQSL, F7 DQL1, F8 DQL3, F9 VSSQ, G1 VSSQ, G2 DQL6, G3 ~{DQSL}, G7 VDD, G8 VSS, G9 VSSQ, H1 VREFDQ, H2 VDDQ, H3 DQL4, H7 DQL7, H8 DQL5, H9 VDDQ, J1 NC1, J2 VSS, J3 ~{RAS}, J7 CK, J8 VSS, J9 NC2, K1 ODT, K2 VDD, K3 ~{CAS}, K7 ~{CK}, K8 VDD, K9 CKE, L1 NC3, L2 ~{CS}, L3 ~{WE}, L7 A10/AP, L8 ZQ, L9 NC4, M1 VSS, M2 BA0, M3 BA2, M7 A15, M8 VREFCA, M9 VSS, N1 VDD, N2 A3, N3 A0, N7 A12/~{BC}, N8 BA1, N9 VDD, P1 VSS, P2 A5, P3 A2, P7 A1, P8 A4, P9 VSS, R1 VDD, R2 A7, R3 A9, R7 A11, R8 A6, R9 VDD, T1 VSS, T2 ~{RESET}, T3 A13, T7 A14, T8 A8, T9 VSS

## IS43TR16512A
designator U?
pins: A1 VDDQ, A2 DQ13, A3 DQ15, A7 DQ12, A8 VDDQ, A9 VSS, B1 VSSQ, B2 VDD, B3 VSS, B7 UDQS_N, B8 DQ14, B9 VSSQ, C1 VDDQ, C2 DQ11, C3 DQ9, C7 UDQS_P, C8 DQ10, C9 VDDQ, D1 VSSQ, D2 VDDQ, D3 UDM, D7 DQ8, D8 VSSQ, D9 VDD, E1 VSS, E2 VSSQ, E3 DQ0, E7 LDM, E8 VSSQ, E9 VDDQ, F1 VDDQ, F2 DQ2, F3 LDQS_P, F7 DQ1, F8 DQ3, F9 VSSQ, G1 VSSQ, G2 DQ6, G3 LDQS_N, G7 VDD, G8 VSS, G9 VSSQ, H1 VREFDQ, H2 VDDQ, H3 DQ4, H7 DQ7, H8 DQ5, H9 VDDQ, J1 ODT_1, J2 VSS, J3 ~{RAS}, J7 CK_P, J8 VSS, J9 CKE_1, K1 ODT_0, K2 VDD, K3 ~{CAS}, K7 CK_N, K8 VDD, K9 CKE_0, L1 ~{CS_1}, L2 ~{CS_0}, L3 ~{WE}, L7 A10/AP, L8 ZQ_0, L9 ZQ_1, M1 VSS, M2 BA0, M3 BA2, M8 VREFCA, M9 VSS, N1 VDD, N2 A3, N3 A0, N7 A12/BCn, N8 BA1, N9 VDD, P1 VSS, P2 A5, P3 A2, P7 A1, P8 A4, P9 VSS, R1 VDD, R2 A7, R3 A9, R7 A11, R8 A6, R9 VDD, T1 VSS, T2 RESETn, T3 A13, T7 A14, T8 A8, T9 VSS

## ISO7220
designator U?
pins: 1 Vcc1, 2 INA (in), 3 INB (in), 4 GND1, 5 GND2, 6 OUTB (out), 7 OUTA (out), 8 Vcc2

## ISO7221
designator U?
pins: 1 Vcc1, 2 OUTA (out), 3 INB (in), 4 GND1, 5 GND2, 6 OUTB (out), 7 INA (in), 8 Vcc2

## KF33BD
designator U?
pins: 1 Vout, 2 GND, 3 GND, 5 INHIBIT, 6 GND, 7 GND, 8 Vin

## KSZ8091RNAIA-TR
designator U?
part A pins: 3 RXM, 4 RXP, 5 TXM, 6 TXP, 7 XO, 8 XI, 9 REXT, 10 MDIO, 11 MDC, 12 RXD1/~{MODE1}, 13 RXD0/~{MODE0}, 15 CRS_DV/PHYAD[1:0], 16 REF_CLK, 17 RXER/PME_EN, 18 INTRP/PME_N2, 19 TXEN, 20 TXD0, 21 TXD1, 23 LED0/PME_N1/ANEN_SPEED, 24 nRST
part B pins: 1 VDDA12, 2 VDDA33, 14 VDDIO, 22 GND, 25 EP

## KSZ9031RNX
designator U?
part A pins: 2 TXRXP_A "Media Dependent Interface^], positive signal of differential pair 1000BASE-T mode: TXRXP_A corresponds to BI_DA+ for MDI configuration and BI_DB+ for MDI- X configuration, respectively. 10BASE-T/100BASE-TX mode: TXRXP_A is the positive transmit signal (TX+) for MDI configuration and the positive receive signal (RX+) for MDI-X configuration, respectively.", 3 TXRXM_A "Media Dependent Interface^], negative signal of differential pair 1000BASE-T mode: TXRXM_A corresponds to BI_DA- for MDI configuration and BI_DB- for MDI-X configuration, respectively. 10BASE-T/100BASE-TX mode: TXRXM_A is the negative transmit signal (TX-) for MDI configuration and the negative receive signal (RX-) for MDI-X configuration, respectively.", 5 TXRXP_B "Media Dependent Interface, positive signal of differential pair 1000BASE-T mode: TXRXP_B corresponds to BI_DB+ for MDI configuration and BI_DA+ for MDI- X configuration, respectively. 10BASE-T/100BASE-TX mode: TXRXP_B is the positive receive signal (RX+) for MDI configuration and the positive transmit signal (TX+) for MDI-X configuration, respectively.", 6 TXRXM_B "Media Dependent Interface, negative signal of differential pair 1000BASE-T mode: TXRXM_B corresponds to BI_DB- for MDI configuration and BI_DA- for MDI-X configuration, respectively. 10BASE-T/100BASE-TX mode: TXRXM_B is the negative receive signal (RX-) for MDI configuration and the negative transmit signal (TX-) for MDI-X configuration, respectively.", 7 TXRXP_C "Media Dependent Interface^], positive signal of differential pair 1000BASE-T mode: TXRXP_C corresponds to BI_DC+ for MDI configuration and BI_DD+ for MDI-X configuration, respectively. 10BASE-T/100BASE-TX mode: TXRXP_C is not used.", 8 TXRXM_C "Media Dependent Interface^], negative signal of differential pair 1000BASE-T mode: TXRXM_C corresponds to BI_DC- for MDI configuration and BI_DD- for MDI-X configuration, respectively. 10BASE-T/100BASE-TX mode: TXRXM_C is not used.", 10 TXRXP_D "Media Dependent Interface^], positive signal of differential pair 1000BASE-T mode: TXRXP_D corresponds to BI_DD+ for MDI configuration and BI_DC+ for MDI-X configuration, respectively. 10BASE-T/100BASE-TX mode: TXRXP_D is not used.", 11 TXRXM_D "Media Dependent Interface^], negative signal of differential pair 1000BASE-T mode: TXRXM_D corresponds to BI_DD- for MDI configuration and BI_DC- for MDI-X configuration, respectively. 10BASE-T/100BASE-TX mode: TXRXM_D is not used.", 15 LED2/PHYAD1 "LED output: Programmable LED2 output Config mode: The pull-up/pull-down value is latched as PHYAD[1] during power-up/reset. See the Strap-In Options - KSZ9031RNX section for details. The LED2 pin is programmed by the LED_MODE strapping option (Pin 41), and is defined as follows: Single-LED Mode", 17 LED1/PHYAD0/PME_N1 "LED1 output: Programmable LED1 output Config mode: The voltage on this pin is sampled and latched during the power-up/reset process to determine the value of PHYAD[0]. See the Strap-In Options - KSZ9031RNX section for details. PME_N output: Programmable PME_N output (pin option 1). This pin function requires an external pull-up resistor to DVDDH (digital VDD |/0) in a range from 1.0 kO to 4.7 kO. When asserted low, this pin signals that a WOL event has occurred. This pin is not an open-drain for all operating modes. The LED1 pin is programmed by the LED_MODE strapping option (Pin 41), and is defined as follows:", 19 TXD0 "RGMII mode: RGMII TD0 (Transmit Data 0) input", 20 TXD1 "RGMII mode: RGMII TD1 (Transmit Data 1) input", 21 TXD2 "RGMII mode: RGMII TD2 (Transmit Data 2) input", 22 TXD3 "RGMII mode: RGMII TD3 (Transmit Data 3) input", 24 GTX_CLK "RGMII mode: RGMII TXC (Transmit Reference Clock) input", 25 TX_EN "RGMII mode: RGMII TX_CTL (Transmit Control) input", 27 RXD3/MODE3 "RGMII mode: RGMII RD3 (Receive Data 3) output Config mode: The pull-up/pull-down value is latched as MODE3 during power-up/reset. See the Strap-In Options - KSZ9031RNX section for details.", 28 RXD2/MODE2 "RGMII mode: RGMII RD2 (Receive Data 2) output Config mode: The pull-up/pull-down value is latched as MODE2 during power-up/reset. See the Strap-In Options - KSZ9031RNX section for details.", 31 RXD1/MODE1 "RGMII mode: RGMII RD1 (Receive Data 1) output Config mode: The pull-up/pull-down value is latched as MODE1 during power-up/reset. See the Strap-In Options - KSZ9031RNX section for details.", 32 RXD0/MODE0 "RGMII mode: RGMII RDO (Receive Data 0) output Config mode: The pull-up/pull-down value is latched as MODEO during power-up/reset. See the Strap-In Options - KSZ9031RNX section for details.", 33 RX_DV/CLK125_EN "RGMII mode: RGMII RX_CTL (Receive Control) output Config mode: Latched as CLK125_NDO Output Enable during power-up/ reset. See the Strap-In Options - KSZ9031RNX section for details.", 35 RX_CLK/PHYAD2 "RGMII mode: RGMII RXC (Receive Reference Clock) output Config mode: The pull-up/pull-down value is latched as PHYAD[2] during power-up/reset. See the Strap-In Options - KSZ9031RNX section for details.", 36 MDC "Management data clock input This pin is the input reference clock for MDIO (Pin 37).", 37 MDIO "Management data input/output This pin is synchronous to MDC (Pin 36) and requires an external pull-up resistor to DVDDH (digital VDD IO) in a range from 1.0 kQ to 4.7 kQ.", 38 INT_N/PME_N2 "Interrupt output: Programmable interrupt output, with Register 1Bh as the Interrupt Control/Status register, for programming the interrupt conditions and reading the interrupt status. Register 1Fh, Bit [14] sets the interrupt output to active low (default) or active high. PME_N output: Programmable PME_N output (pin option 2). When asserted low, this pin signals that a WOL event has occurred. For Interrupt (when active low) and PME functions, this pin requires an external pull-up resistor to DVDDH (digital VDD po)in a range from 1.0 kQ to 4.7 kQ. This pin is not an open-drain for all operating modes.", 41 CLK125_NDO/LED_MODE "125 MHz clock output This pin provides a 125 MHz reference clock output option for use by the MAC. Config mode: The pull-up/pull-down value is latched as LED_MODE during power-up/reset. See the Strap-In Options - KSZ9031RNX section for details.", 42 RESET_N "Chip reset (active low) Hardware pin configurations are strapped-in at the de-assertion (rising edge) of RESET_N. See the Strap-In Options - KSZ9031RNX section for details.", 45 XO "25 MHz crystal feedback This pin is a no connect if an oscillator or external clock source is used.", 46 XI "Crystal/Oscillator/External Clock input 25 MHz ±50 ppm tolerance", 48 ISET "Set the transmit output level Connect a 12.1 kQ 1% resistor to ground on this pin."
part B pins: 1 AVDDH "3.3V/2.5V (commercial temp only) analog VDD", 4 AVDDL "1.2V analog VDD", 9 AVDDL "1.2V analog VDD", 12 AVDDH "3.3V/2.5V (commercial temp only) analog VDD", 13 NC "No connect. This pin is not bonded and can be connected to digital ground for footprint compatibility with the KSZ9021RN Gigabit PHY.", 14 DVDDL "1.2V digital VDD", 16 DVDDH "3.3V, 2.5V, or 1.8V digital VDDJ/O", 18 DVDDL "1.2V digital VDD", 23 DVDDL "1.2V digital VDD", 26 DVDDL "1.2V digital VDD", 29 VSS "Digital ground", 30 DVDDL "1.2V digital VDD", 34 DVDDH "3.3V, 2.5V, or 1.8V digital VDDJ/O", 39 DVDDL "1.2V digital VDD", 40 DVDDH "3.3V, 2.5V, or 1.8V digital VDDJ/O", 43 LDO_O "On-chip 1.2V LDO controller output This pin drives the input gate of a P-channel MOSFET to generate 1.2V for the chip’s core voltages. If the system provides 1.2V and this pin is not used, it can be left floating. Note: This pin should never be driven externally.", 44 AVDDL_PLL "1.2V analog VDD for PLL", 47 NC "No connect This pin is not bonded and can be connected to AVDDH power for footprint compatibility with the KSZ9021RN Gigabit PHY.", 49 P_GND "Exposed paddle on bottom of chip Connect P_GND to ground."

## L5970ADTR
designator U?
pins: 1 OUT, 2 SYNC, 3 INH, 4 COMP, 5 FB, 6 VREF, 7 GND, 8 VCC

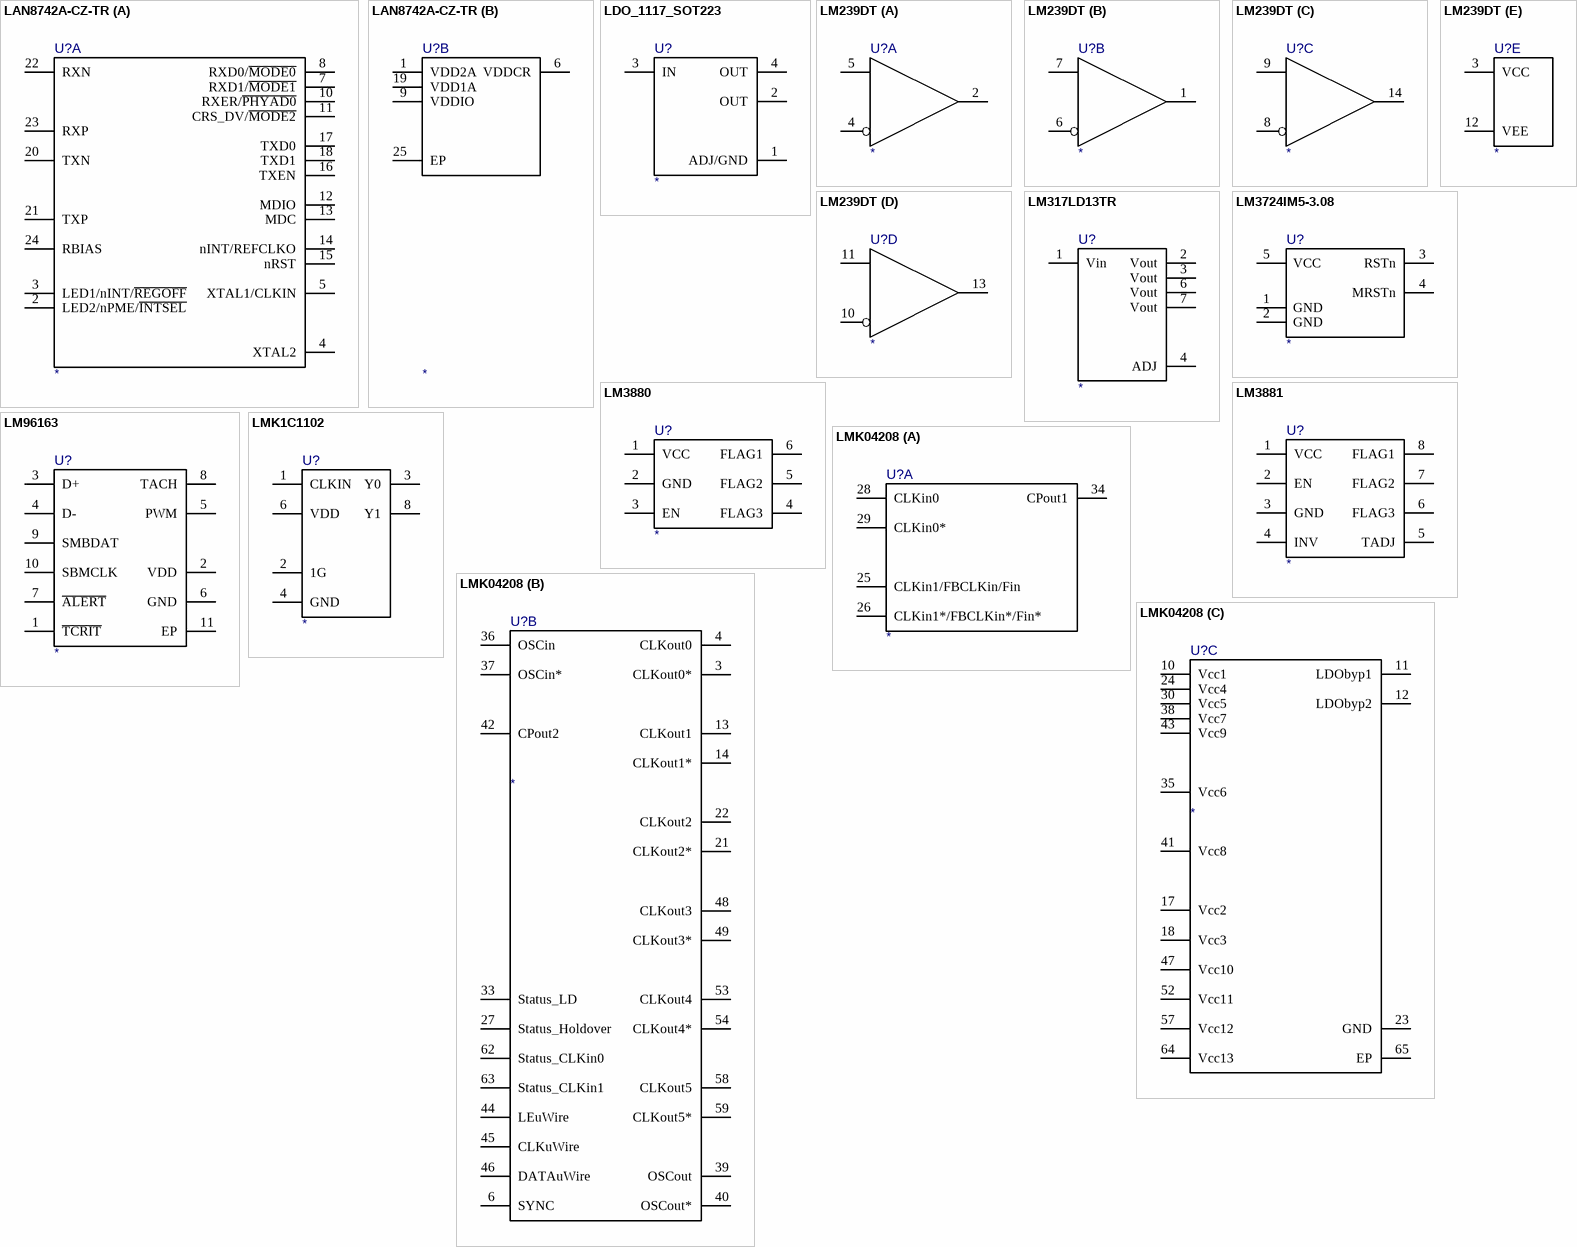
[diagram p28: symbols LAN8742A-CZ-TR to LMK04208]

## LAN8742A-CZ-TR
designator U?
part A pins: 2 LED2/nPME/~{INTSEL}, 3 LED1/nINT/~{REGOFF}, 4 XTAL2, 5 XTAL1/CLKIN, 7 RXD1/~{MODE1}, 8 RXD0/~{MODE0}, 10 RXER/~{PHYAD0}, 11 CRS_DV/~{MODE2}, 12 MDIO, 13 MDC, 14 nINT/REFCLKO, 15 nRST, 16 TXEN, 17 TXD0, 18 TXD1, 20 TXN, 21 TXP, 22 RXN, 23 RXP, 24 RBIAS
part B pins: 1 VDD2A, 6 VDDCR, 9 VDDIO, 19 VDD1A, 25 EP

## LDO_1117_SOT223
designator U?
pins: 1 ADJ/GND, 2 OUT, 3 IN, 4 OUT

## LM239DT
designator U?
part A pins: 2 OUT1, 4 IN1-, 5 IN1+
part B pins: 1 OUT2, 6 IN2-, 7 IN2+
part C pins: 8 IN3-, 9 IN3+, 14 OUT3
part D pins: 10 IN4-, 11 IN4+, 13 OUT4
part E pins: 3 VCC, 12 VEE

## LM317LD13TR
designator U?
pins: 1 Vin, 2 Vout, 3 Vout, 4 ADJ, 6 Vout, 7 Vout

## LM3724IM5-3.08
designator U?
pins: 1 GND, 2 GND, 3 RSTn, 4 MRSTn, 5 VCC

## LM3880
designator U?
pins: 1 VCC, 2 GND, 3 EN, 4 FLAG3, 5 FLAG2, 6 FLAG1

## LM3881
designator U?
pins: 1 VCC, 2 EN, 3 GND, 4 INV, 5 TADJ, 6 FLAG3, 7 FLAG2, 8 FLAG1

## LM96163
designator U?
pins: 1 ~{TCRIT}, 2 VDD, 3 D+, 4 D-, 5 PWM, 6 GND, 7 ~{ALERT}, 8 TACH, 9 SMBDAT, 10 SBMCLK, 11 EP

## LMK1C1102
designator U?
pins: 1 CLKIN, 2 1G, 3 Y0, 4 GND, 6 VDD, 8 Y1

## LMK04208
designator U?
part A pins: 25 CLKin1/FBCLKin/Fin "Reference Clock Input Port 1 for PLL1. Feedback input for external clock feedback input (0-delay mode). External VCO input (External VCO mode). AC or DC Coupled.", 26 CLKin1*/FBCLKin*/Fin* "Reference Clock Input Port 1 for PLL1. Feedback input for external clock feedback input (0-delay mode). External VCO input (External VCO mode). AC or DC Coupled.", 28 CLKin0 "Reference Clock Input Port 0 for PLL1. AC or DC Coupled.", 29 CLKin0* "Reference Clock Input Port 0 for PLL1. AC or DC Coupled.", 34 CPout1 "Charge pump 1 output."
part B pins: 3 CLKout0* "Clock output 0.", 4 CLKout0 "Clock output 0.", 6 SYNC "CLKout Synchronization input or programmable status pin.", 13 CLKout1 "Clock output 1.", 14 CLKout1* "Clock output 1.", 21 CLKout2* "Clock output 2.", 22 CLKout2 "Clock output 2.", 27 Status_Holdover "Programmable status pin, default readback output. Programmable to holdover mode indicator. Other options available by programming.", 33 Status_LD "Programmable status pin, default lock detect for PLL1 and PLL2. Other options available by programming.", 36 OSCin "Feedback to PLL1, Reference input to PLL2. AC Coupled.", 37 OSCin* "Feedback to PLL1, Reference input to PLL2. AC Coupled.", 39 OSCout "Buffered output of OSCin port.", 40 OSCout* "Buffered output of OSCin port.", 42 CPout2 "Charge pump 2 output.", 44 LEuWire "MICROWIRE Latch Enable Input.", 45 CLKuWire "MICROWIRE Clock Input.", 46 DATAuWire "MICROWIRE Data Input.", 48 CLKout3 "Clock output 3.", 49 CLKout3* "Clock output 3.", 53 CLKout4 "Clock output 4.", 54 CLKout4* "Clock output 4.", 58 CLKout5 "Clock output 5.", 59 CLKout5* "Clock output 5.", 62 Status_CLKin0 "NC. Programmable status pin. Default is input for pin control of PLL1 reference clock selection. CLKin0 LOS status and other options available by programming.", 63 Status_CLKin1 "Programmable status pin. Default is input for pin control of PLL1 reference clock selection. CLKin1 LOS status and other options available by programming."
part C pins: 10 Vcc1 "Power supply for VCO LDO.", 11 LDObyp1 "LDO Bypass, bypassed to ground with 10-uF capacitor.", 12 LDObyp2 "LDO Bypass, bypassed to ground with a 0.1-uF capacitor.", 17 Vcc2 "Power supply for clock output 1.", 18 Vcc3 "Power supply for clock output 2.", 23 GND "Ground.", 24 Vcc4 "Power supply for digital.", 30 Vcc5 "Power supply for clock inputs.", 35 Vcc6 "Power supply for PLL1, charge pump 1.", 38 Vcc7 "Power supply for OSCin, OSCout, and PLL2 circuitry.", 41 Vcc8 "Power supply for PLL2, charge pump 2.", 43 Vcc9 "Power supply for PLL2.", 47 Vcc10 "Power supply for clock output 3.", 52 Vcc11 "Power supply for clock output 4.", 57 Vcc12 "Power supply for clock output 5.", 64 Vcc13 "Power supply for clock output 0.", 65 EP "DIE ATTACH PAD, connect to GND."

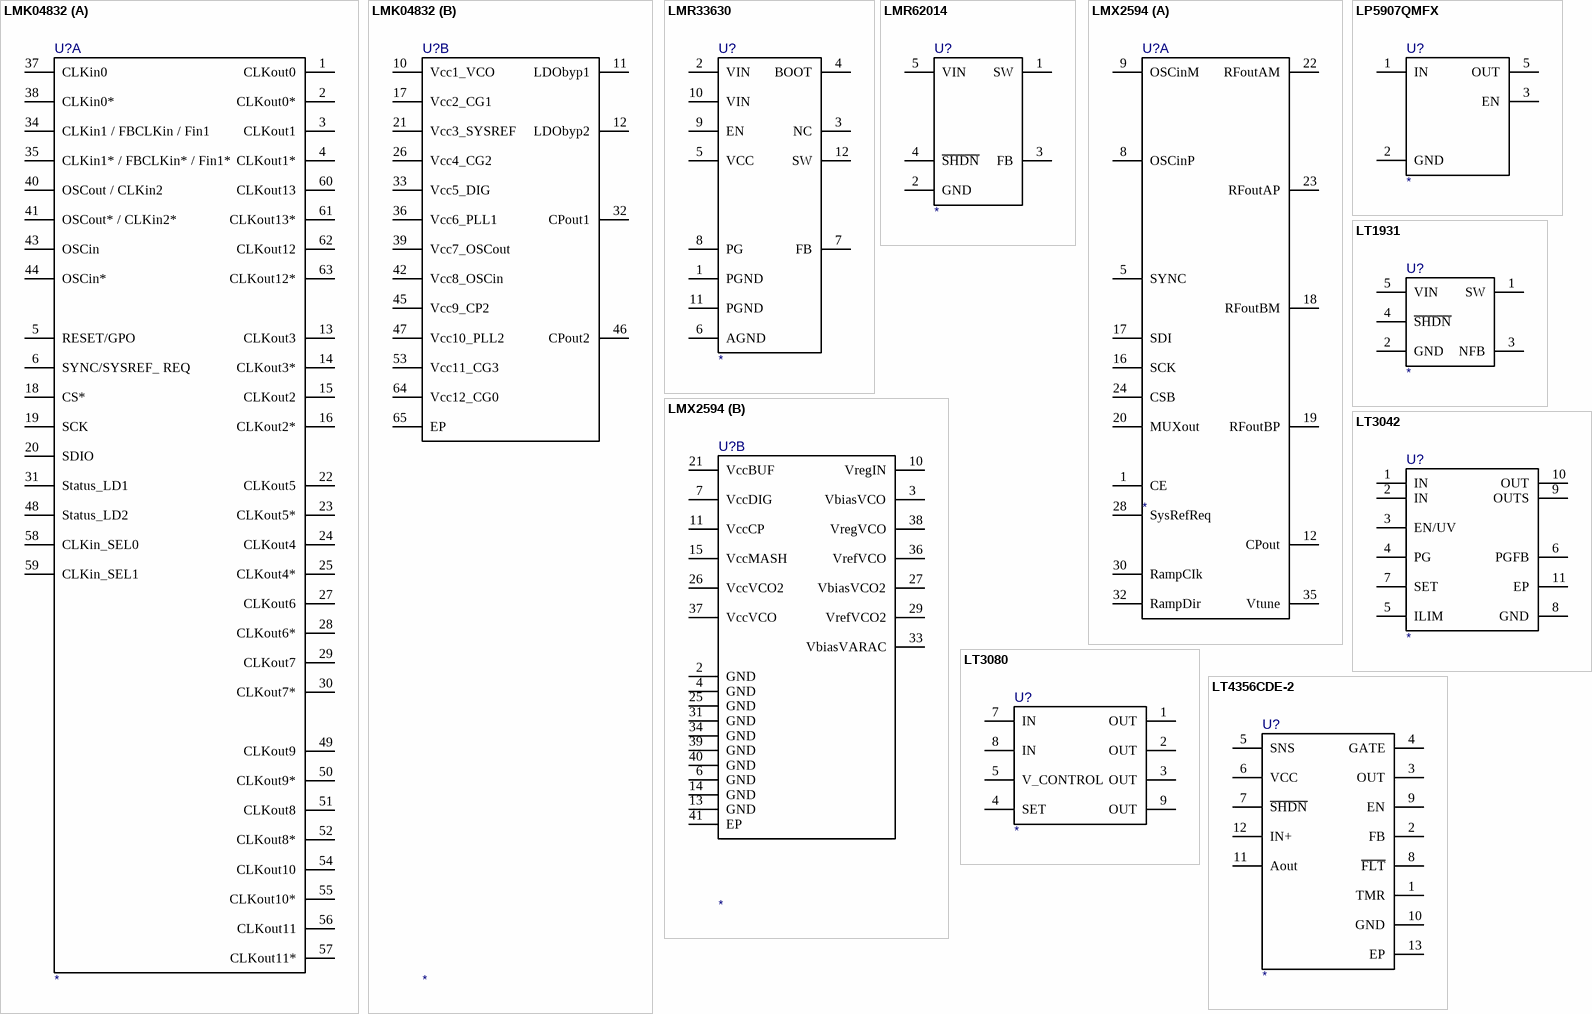
[diagram p29: symbols LMK04832 to LT4356CDE-2]

## LMK04832
designator U?
part A pins: 1 CLKout0 "Clock output 0. For JESD204B systems suggest Device Clock. Programmable formats: CML, LVPECL, LCPECL, or LVDS.", 2 CLKout0* "Clock output 0. For JESD204B systems suggest Device Clock. Programmable formats: CML, LVPECL, LCPECL, or LVDS.", 3 CLKout1 "Clock output 1. For JESD204B systems suggest SYSREF Clock. Programmable formats: CML, LVPECL, LCPECL, LVDS, or 2xLVCMOS.", 4 CLKout1* "Clock output 1. For JESD204B systems suggest SYSREF Clock. Programmable formats: CML, LVPECL, LCPECL, LVDS, or 2xLVCMOS.", 5 RESET/GPO "Device reset input or GPO", 6 SYNC/SYSREF_ REQ "Synchronization input or SYSREF_REQ for requesting continuous SYSREF.", 13 CLKout3 "Clock output 3. For JESD204B systems suggest SYSREF Clock. Programmable formats: CML, LVPECL, LCPECL, LVDS, or 2xLVCMOS.", 14 CLKout3* "Clock output 3. For JESD204B systems suggest SYSREF Clock. Programmable formats: CML, LVPECL, LCPECL, LVDS, or 2xLVCMOS.", 15 CLKout2 "Clock output 2. For JESD204B systems suggest Device Clock. Programmable formats: CML, LVPECL, LCPECL, or LVDS.", 16 CLKout2* "Clock output 2. For JESD204B systems suggest Device Clock. Programmable formats: CML, LVPECL, LCPECL, or LVDS.", 18 CS* "Chip Select", 19 SCK "SPI Clock", 20 SDIO "SPI Data", 22 CLKout5 "Clock output 5. For JESD204B systems suggest SYSREF Clock. Programmable formats: CML, LVPECL, LCPECL, LVDS, or 2xLVCMOS.", 23 CLKout5* "Clock output 5. For JESD204B systems suggest SYSREF Clock. Programmable formats: CML, LVPECL, LCPECL, LVDS, or 2xLVCMOS.", 24 CLKout4 "Clock output 4. For JESD204B systems suggest Device Clock. Programmable formats: CML, LVPECL, LCPECL, or LVDS.", 25 CLKout4* "Clock output 4. For JESD204B systems suggest Device Clock. Programmable formats: CML, LVPECL, LCPECL, or LVDS.", 27 CLKout6 "Clock output 6. For JESD204B systems suggest Device Clock. Programmable formats: CML, LVPECL, LCPECL, or LVDS.", 28 CLKout6* "Clock output 6. For JESD204B systems suggest Device Clock. Programmable formats: CML, LVPECL, LCPECL, or LVDS.", 29 CLKout7 "Clock output 7. For JESD204B systems suggest SYSREF Clock. Programmable formats: CML, LVPECL, LCPECL, LVDS, or 2xLVCMOS.", 30 CLKout7* "Clock output 7. For JESD204B systems suggest SYSREF Clock. Programmable formats: CML, LVPECL, LCPECL, LVDS, or 2xLVCMOS.", 31 Status_LD1 "Programmable status pin.", 34 CLKin1 / FBCLKin / Fin1 "Reference Clock Input Port 1 for PLL1. / Feedback input for external clock feedback input (0-delay mode). / External VCO Input or clock distribution input.", 35 CLKin1* / FBCLKin* / Fin1* "Reference Clock Input Port 1 for PLL1. / Feedback input for external clock feedback input (0-delay mode). / External VCO Input or clock distribution input.", 37 CLKin0 "Reference Clock Input Port 0 for PLL1.", 38 CLKin0* "Reference Clock Input Port 0 for PLL1.", 40 OSCout / CLKin2 "Buffered output of OSCin port. / Reference Clock Input Port 2 for PLL1.", 41 OSCout* / CLKin2* "Buffered output of OSCin port. / Reference Clock Input Port 2 for PLL1.", 43 OSCin "Feedback to PLL1 and reference input to PLL2. AC-coupled.", 44 OSCin* "Feedback to PLL1 and reference input to PLL2. AC-coupled.", 48 Status_LD2 "Programmable status pin.", 49 CLKout9 "Clock output 9. For JESD204B systems suggest SYSREF Clock. Programmable formats: CML, LVPECL, LCPECL, LVDS, or 2xLVCMOS.", 50 CLKout9* "Clock output 9. For JESD204B systems suggest SYSREF Clock. Programmable formats: CML, LVPECL, LCPECL, LVDS, or 2xLVCMOS.", 51 CLKout8 "Clock output 8. For JESD204B systems suggest Device Clock. Programmable formats: CML, LVPECL, LCPECL, LVDS, or 2xLVCMOS.", 52 CLKout8* "Clock output 8. For JESD204B systems suggest Device Clock. Programmable formats: CML, LVPECL, LCPECL, LVDS, or 2xLVCMOS.", 54 CLKout10 "Clock output 10. For JESD204B systems suggest Device Clock. Programmable formats: CML, LVPECL, LCPECL, LVDS, or 2xLVCMOS.", 55 CLKout10* "Clock output 10. For JESD204B systems suggest Device Clock. Programmable formats: CML, LVPECL, LCPECL, LVDS, or 2xLVCMOS.", 56 CLKout11 "Clock output 11. For JESD204B systems suggest SYSREF Clock. Programmable formats: CML, LVPECL, LCPECL, LVDS, or 2xLVCMOS.", 57 CLKout11* "Clock output 11. For JESD204B systems suggest SYSREF Clock. Programmable formats: CML, LVPECL, LCPECL, LVDS, or 2xLVCMOS.", 58 CLKin_SEL0 "Programmable status pin.", 59 CLKin_SEL1 "Programmable status pin.", 60 CLKout13 "Clock output 13. For JESD204B systems suggest SYSREF Clock. Programmable formats: CML, LVPECL, LCPECL, LVDS, or 2xLVCMOS.", 61 CLKout13* "Clock output 13. For JESD204B systems suggest SYSREF Clock. Programmable formats: CML, LVPECL, LCPECL, LVDS, or 2xLVCMOS.", 62 CLKout12 "Clock output 12. For JESD204B systems suggest Device Clock. Programmable formats: CML, LVPECL, LCPECL, or LVDS.", 63 CLKout12* "Clock output 12. For JESD204B systems suggest Device Clock. Programmable formats: CML, LVPECL, LCPECL, or LVDS."
part B pins: 10 Vcc1_VCO "Power supply for VCO and clock distribution.", 11 LDObyp1 "LDO Bypass, bypassed to ground with 10-uF capacitor.", 12 LDObyp2 "LDO Bypass, bypassed to ground with a 0.1-uF capacitor.", 17 Vcc2_CG1 "Power supply for clock outputs 2 and 3.", 21 Vcc3_SYSREF "Power supply for SYSREF divider and SYNC.", 26 Vcc4_CG2 "Power supply for clock outputs 4, 5, 6 and 7.", 32 CPout1 "Charge pump 1 output.", 33 Vcc5_DIG "Power supply for the digital circuitry.", 36 Vcc6_PLL1 "Power supply for PLL1, charge pump 1, holdover DAC", 39 Vcc7_OSCout "Power supply for OSCout port.", 42 Vcc8_OSCin "Power supply for OSCin", 45 Vcc9_CP2 "Power supply for PLL2 Charge Pump.", 46 CPout2 "Charge pump 2 output.", 47 Vcc10_PLL2 "Power supply for PLL2.", 53 Vcc11_CG3 "Power supply for clock outputs 8, 9, 10, and 11.", 64 Vcc12_CG0 "Power supply for clock outputs 0, 1, 12, and 13.", 65 EP "DIE ATTACH PAD, connect to GND."

## LMR33630
designator U?
pins: 1 PGND, 2 VIN, 3 NC, 4 BOOT, 5 VCC, 6 AGND, 7 FB, 8 PG, 9 EN, 10 VIN, 11 PGND, 12 SW

## LMR62014
designator U?
pins: 1 SW, 2 GND, 3 FB, 4 ~{SHDN}, 5 VIN

## LMX2594
designator U?
part A pins: 1 CE "Chip enable input. Active HIGH powers on the device.", 5 SYNC "Phase synchronization pin. Has programmable threshold.", 8 OSCinP "Reference input clock (+). High-impedance self-biasing pin. Requires AC-coupling capacitor. (0.1 uF recommended)", 9 OSCinM "Reference input clock (-). High impedance self-biasing pin. Requires AC-coupling capacitor. (0.1 uF recommended)", 12 CPout "Charge pump output. Tl recommends connecting C1 of loop filter close to pin.", 16 SCK "SPI clock. High impedance CMOS input. 1.8-V to 3.3-V logic.", 17 SDI "SPI data. High impedance CMOS input. 1.8-V to 3.3-V logic.", 18 RFoutBM "Differential output B (-). Requires a pullup (typically 50 Ohm resistor) connected to Vcc as close to the pin as possible. Can be used as an output signal or SYSREF output.", 19 RFoutBP "Differential output B (+). Requires a pullup (typically 50 Ohm resistor) connected to Vcc as close to the pin as possible. Can be used as an output signal or SYSREF output.", 20 MUXout "Multiplexed output pin — lock detect, readback, diagnostics, ramp status.", 22 RFoutAM "Differential output A (-). Requires connecting a 50 Ohm resistor pullup to Vcc as close to the pin as possible.", 23 RFoutAP "Differential output A (+). Requires connecting a 50 Ohm resistor pullup to Vcc as close to the pin as possible.", 24 CSB "SPI latch. Chip Select Bar. High-impedance CMOS input. 1.8-V to 3.3-V logic.", 28 SysRefReq "SYSREF request input for JESD204B support.", 30 RampCIk "Input pin for ramping mode that can be used to clock the ramp in manual ramping mode or as a trigger input.", 32 RampDir "Input pin for ramping mode that can be used to change ramp direction in manual ramping mode or as a trigger input.", 35 Vtune "VCO tuning voltage input."
part B pins: 2 GND "VCO ground.", 3 VbiasVCO "VCO bias. Requires a 10-uF capacitor connected to VCO ground. Place close to pin.", 4 GND "VCO ground.", 6 GND "Digital ground.", 7 VccDIG "Digital supply. Tl recommends bypassing with decoupling capacitor to digital ground.", 10 VregIN "Input reference path regulator output. Requires a 1-uF capacitor connected to ground. Place close to pin.", 11 VccCP "Charge pump supply. Tl recommends bypassing with decoupling capacitor to charge pump ground.", 13 GND "Charge pump ground.", 14 GND "Digital ground.", 15 VccMASH "Digital supply. Tl recommends bypassing with decoupling capacitor to digital ground.", 21 VccBUF "Output buffer supply. Tl recommends bypassing with decoupling capacitor to RFout ground.", 25 GND "VCO ground.", 26 VccVCO2 "VCO supply. Tl recommends bypassing with decoupling capacitor to VCO ground.", 27 VbiasVCO2 "VCO bias. Requires a 1-uF capacitor connected to VCO ground.", 29 VrefVCO2 "VCO supply reference. Requires a 10-uF capacitor connected to VCO ground.", 31 GND "VCO ground.", 33 VbiasVARAC "VCO Varactor bias. Requires a 10-uF capacitor connected to VCO ground.", 34 GND "VCO ground.", 36 VrefVCO "VCO supply reference. Requires a 10-uF capacitor connected to VCO ground.", 37 VccVCO "VCO supply. Recommend bypassing with decoupling capacitor to ground.", 38 VregVCO "VCO regulator node. Requires a 1-uF capacitor connected to ground.", 39 GND "VCO ground.", 40 GND "VCO ground.", 41 EP "Die Attached Pad. Used for RFout ground."

## LP5907QMFX
designator U?
pins: 1 IN, 2 GND, 3 EN, 5 OUT

## LT1931
designator U?
pins: 1 SW, 2 GND, 3 NFB, 4 ~{SHDN}, 5 VIN

## LT3042
designator U?
pins: 1 IN, 2 IN, 3 EN/UV, 4 PG, 5 ILIM, 6 PGFB, 7 SET, 8 GND, 9 OUTS, 10 OUT, 11 EP

## LT3080
designator U?
pins: 1 OUT, 2 OUT, 3 OUT, 4 SET, 5 V_CONTROL, 7 IN, 8 IN, 9 OUT

## LT4356CDE-2
designator U?
pins: 1 TMR, 2 FB, 3 OUT, 4 GATE, 5 SNS, 6 VCC, 7 ~{SHDN}, 8 ~{FLT}, 9 EN, 10 GND, 11 Aout, 12 IN+, 13 EP

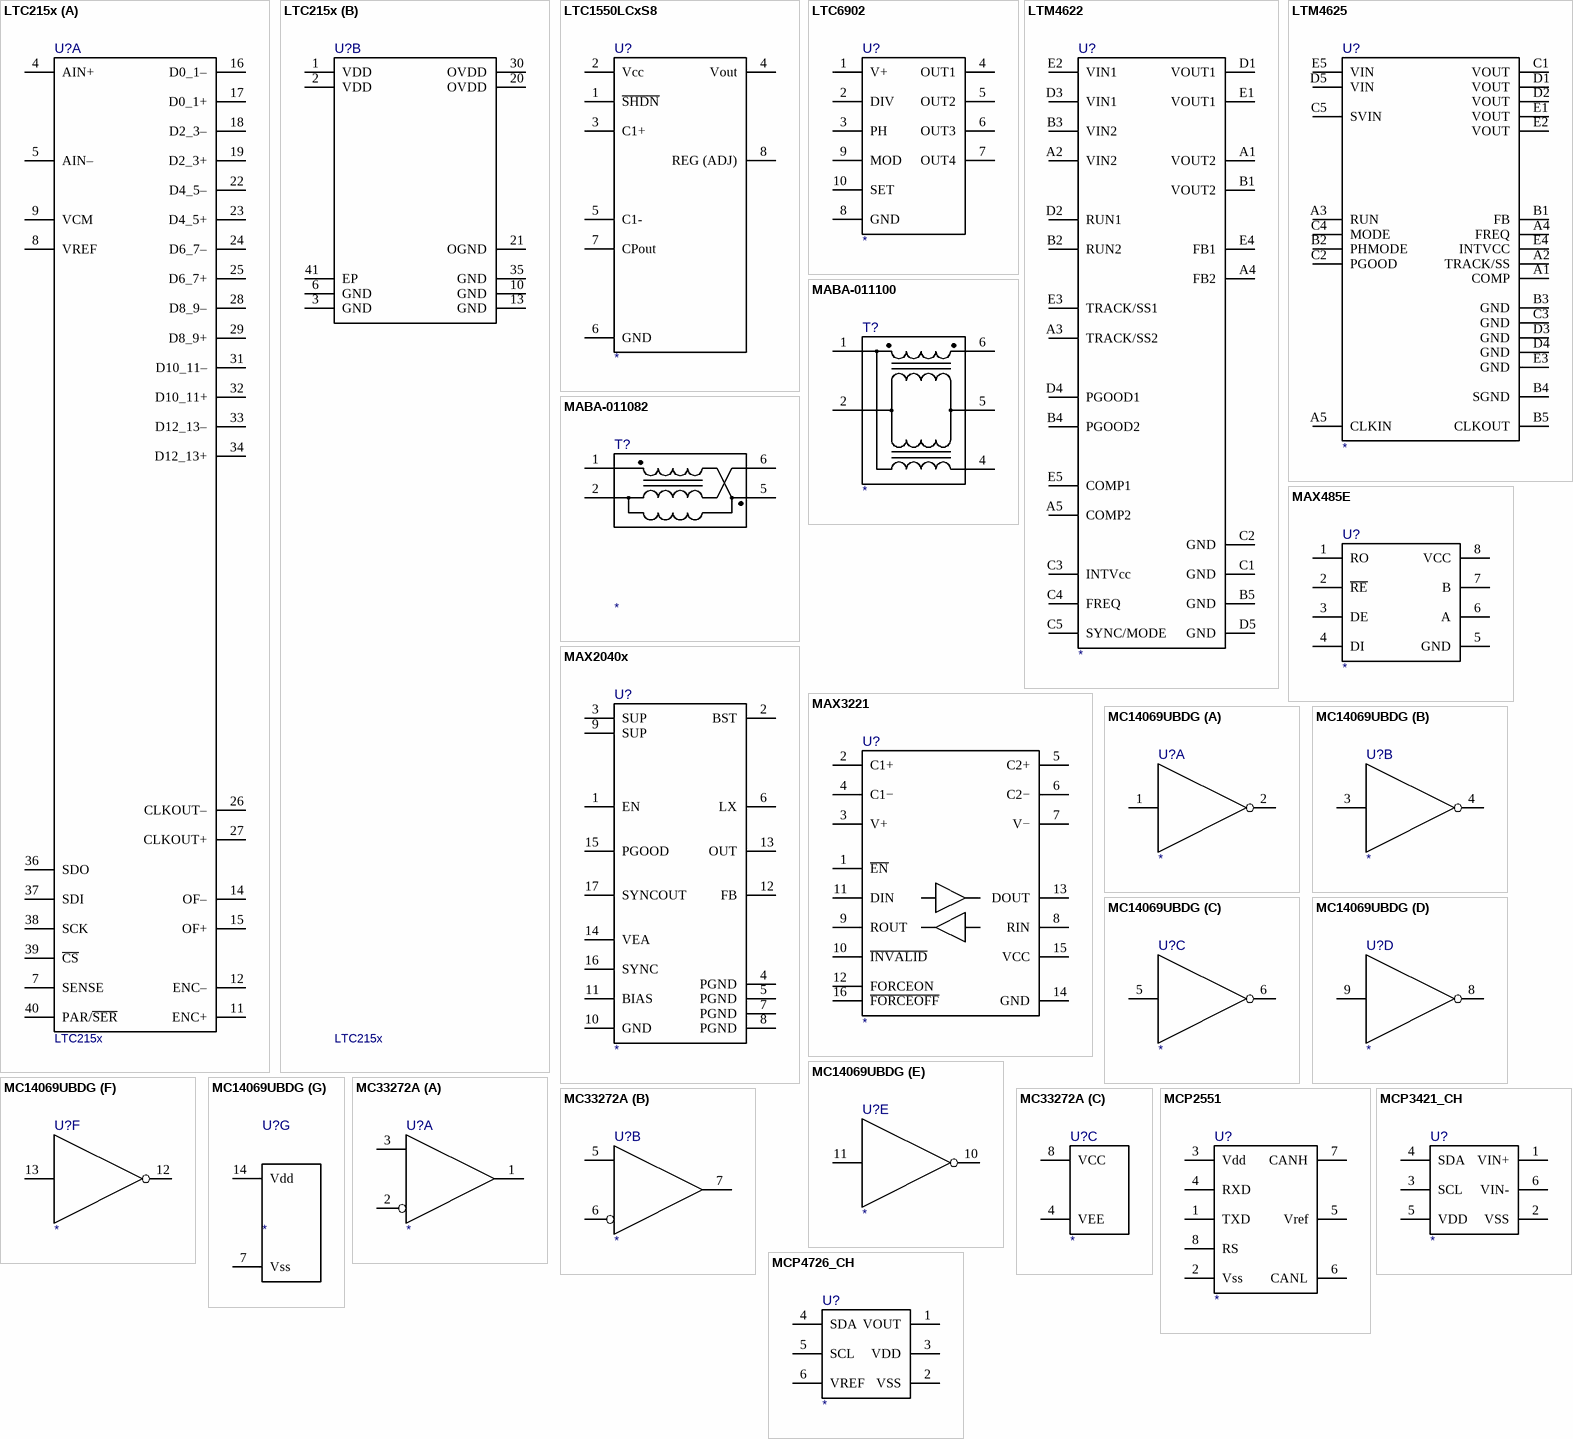
[diagram p30: symbols LTC215x to MCP4726_CH]

## LTC215x
designator U?
part A pins: 4 AIN+, 5 AIN–, 7 SENSE, 8 VREF, 9 VCM, 11 ENC+, 12 ENC–, 14 OF–, 15 OF+, 16 D0_1–, 17 D0_1+, 18 D2_3–, 19 D2_3+, 22 D4_5–, 23 D4_5+, 24 D6_7–, 25 D6_7+, 26 CLKOUT–, 27 CLKOUT+, 28 D8_9–, 29 D8_9+, 31 D10_11–, 32 D10_11+, 33 D12_13–, 34 D12_13+, 36 SDO, 37 SDI, 38 SCK, 39 ~{CS}, 40 PAR/~{SER}
part B pins: 1 VDD, 2 VDD, 3 GND, 6 GND, 10 GND, 13 GND, 20 OVDD, 21 OGND, 30 OVDD, 35 GND, 41 EP

## LTC1550LCxS8
designator U?
pins: 1 ~{SHDN}, 2 Vcc, 3 C1+, 4 Vout, 5 C1-, 6 GND, 7 CPout, 8 REG (ADJ)

## LTC6902
designator U?
pins: 1 V+, 2 DIV, 3 PH, 4 OUT1, 5 OUT2, 6 OUT3, 7 OUT4, 8 GND, 9 MOD, 10 SET

## LTM4622
designator U?
pins: A1 VOUT2, A2 VIN2, A3 TRACK/SS2, A4 FB2, A5 COMP2, B1 VOUT2, B2 RUN2, B3 VIN2, B4 PGOOD2, B5 GND, C1 GND, C2 GND, C3 INTVcc, C4 FREQ, C5 SYNC/MODE, D1 VOUT1, D2 RUN1, D3 VIN1, D4 PGOOD1, D5 GND, E1 VOUT1, E2 VIN1, E3 TRACK/SS1, E4 FB1, E5 COMP1

## LTM4625
designator U?
pins: A1 COMP, A2 TRACK/SS, A3 RUN, A4 FREQ, A5 CLKIN, B1 FB, B2 PHMODE, B3 GND, B4 SGND, B5 CLKOUT, C1 VOUT, C2 PGOOD, C3 GND, C4 MODE, C5 SVIN, D1 VOUT, D2 VOUT, D3 GND, D4 GND, D5 VIN, E1 VOUT, E2 VOUT, E3 GND, E4 INTVCC, E5 VIN

## MABA-011082
designator T?
pins: 1, 2, 5, 6

## MABA-011100
designator T?
pins: 1, 2, 4, 5, 6

## MAX485E
designator U?
pins: 1 RO, 2 ~{RE}, 3 DE, 4 DI, 5 GND, 6 A, 7 B, 8 VCC

## MAX2040x
designator U?
pins: 1 EN, 2 BST, 3 SUP, 4 PGND, 5 PGND, 6 LX, 7 PGND, 8 PGND, 9 SUP, 10 GND, 11 BIAS, 12 FB, 13 OUT, 14 VEA, 15 PGOOD, 16 SYNC, 17 SYNCOUT

## MAX3221
designator U?
pins: 1 ~{EN}, 2 C1+, 3 V+, 4 C1−, 5 C2+, 6 C2−, 7 V−, 8 RIN, 9 ROUT, 10 ~{INVALID}, 11 DIN, 12 FORCEON, 13 DOUT, 14 GND, 15 VCC, 16 ~{FORCEOFF}

## MC14069UBDG
designator U?
part A pins: 1 IN1, 2 OUT1
part B pins: 3 IN2, 4 OUT2
part C pins: 5 IN3, 6 OUT3
part D pins: 8 OUT4, 9 IN4
part E pins: 10 OUT5, 11 IN5
part F pins: 12 OUT6, 13 IN6
part G pins: 7 Vss, 14 Vdd

## MC33272A
designator U?
part A pins: 1 OUT1, 2 IN1-, 3 IN1+
part B pins: 5 IN2+, 6 IN2-, 7 OUT2
part C pins: 4 VEE, 8 VCC

## MCP2551
designator U?
pins: 1 TXD, 2 Vss, 3 Vdd, 4 RXD, 5 Vref, 6 CANL, 7 CANH, 8 RS

## MCP3421_CH
designator U?
pins: 1 VIN+, 2 VSS, 3 SCL, 4 SDA, 5 VDD, 6 VIN-

## MCP4726_CH
designator U?
pins: 1 VOUT, 2 VSS, 3 VDD, 4 SDA, 5 SCL, 6 VREF

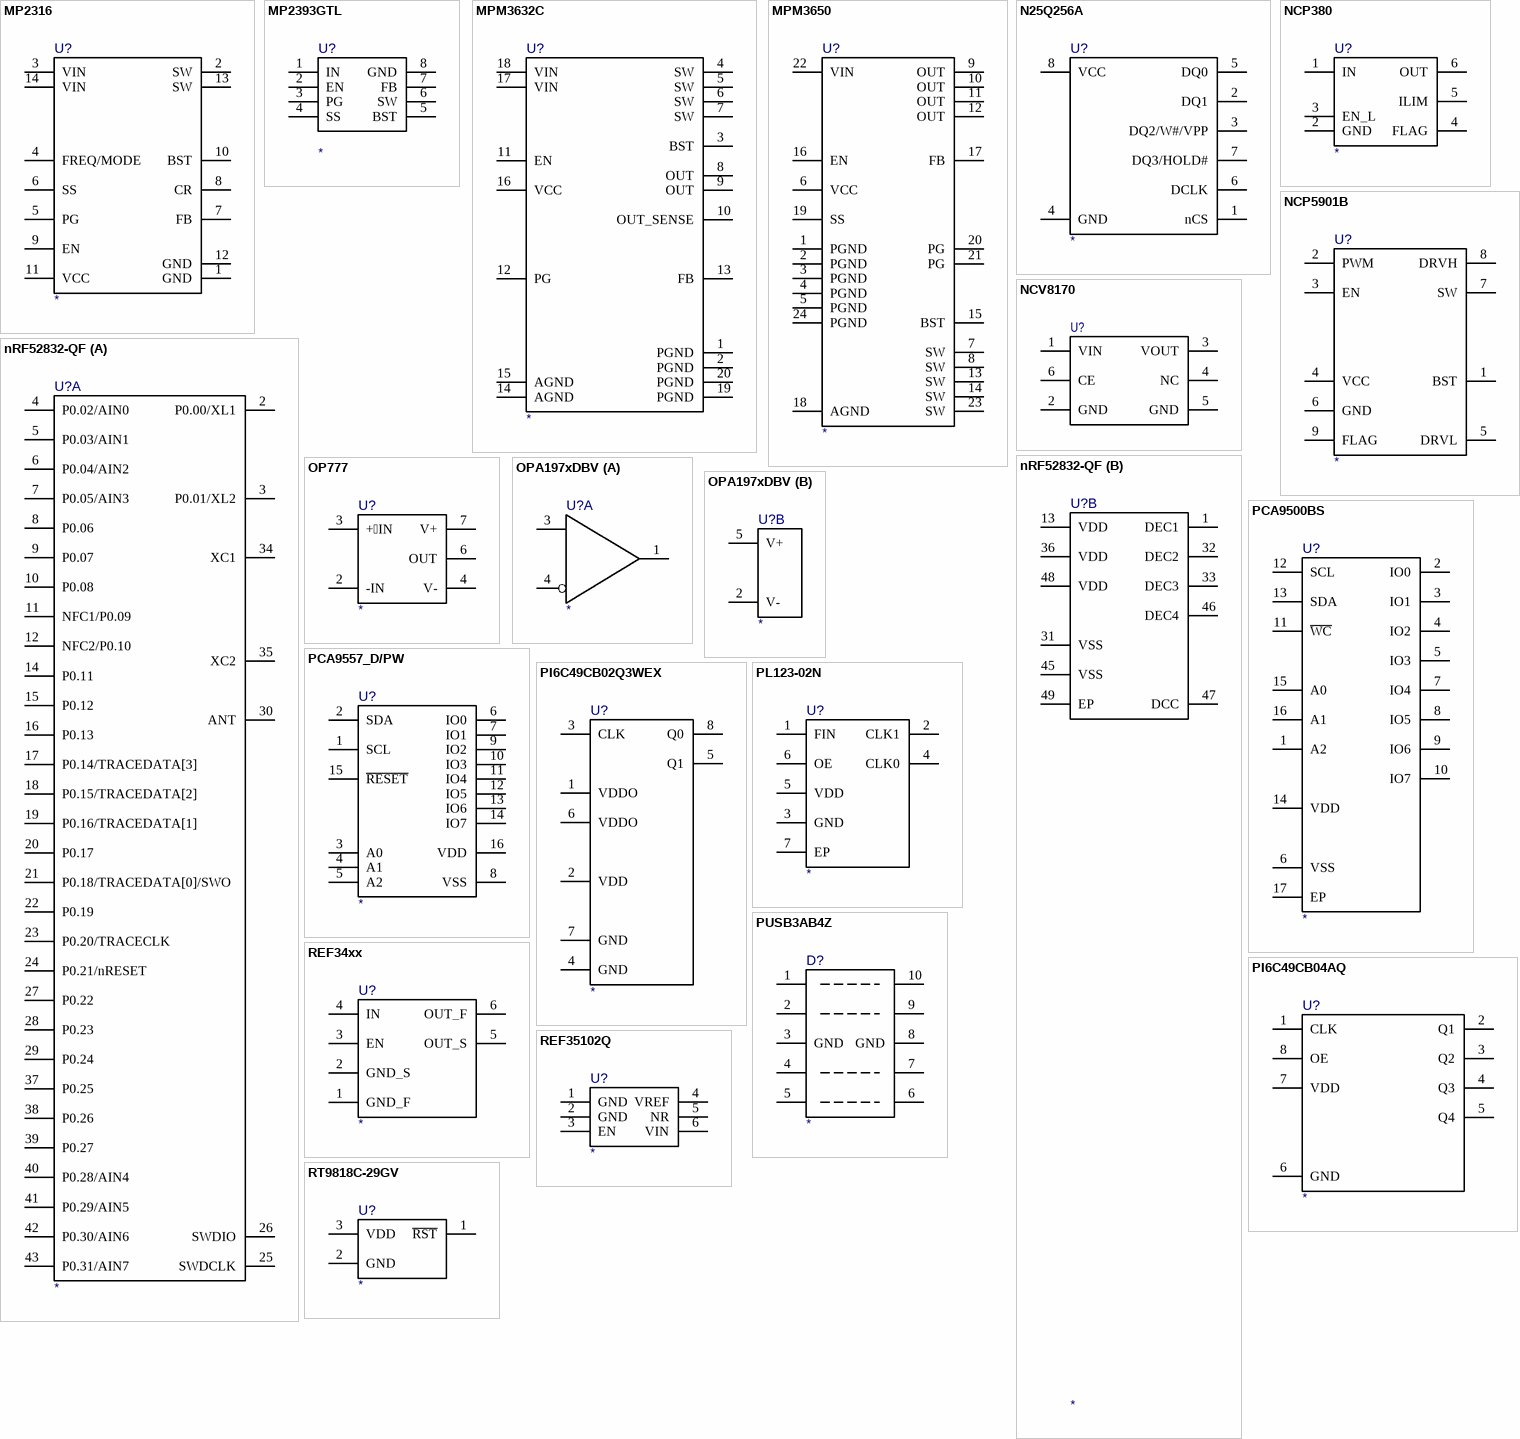
[diagram p31: symbols MP2316 to RT9818C-29GV]

## MP2316
designator U?
pins: 1 GND, 2 SW, 3 VIN, 4 FREQ/MODE, 5 PG, 6 SS, 7 FB, 8 CR, 9 EN, 10 BST, 11 VCC, 12 GND, 13 SW, 14 VIN

## MP2393GTL
designator U?
pins: 1 IN, 2 EN, 3 PG, 4 SS, 5 BST, 6 SW, 7 FB, 8 GND

## MPM3632C
designator U?
pins: 1 PGND, 2 PGND, 3 BST, 4 SW, 5 SW, 6 SW, 7 SW, 8 OUT, 9 OUT, 10 OUT_SENSE, 11 EN, 12 PG, 13 FB, 14 AGND, 15 AGND, 16 VCC, 17 VIN, 18 VIN, 19 PGND, 20 PGND

## MPM3650
designator U?
pins: 1 PGND, 2 PGND, 3 PGND, 4 PGND, 5 PGND, 6 VCC, 7 SW, 8 SW, 9 OUT, 10 OUT, 11 OUT, 12 OUT, 13 SW, 14 SW, 15 BST, 16 EN, 17 FB, 18 AGND, 19 SS, 20 PG, 21 PG, 22 VIN, 23 SW, 24 PGND

## N25Q256A
designator U?
pins: 1 nCS, 2 DQ1, 3 DQ2/W#/VPP, 4 GND, 5 DQ0, 6 DCLK, 7 DQ3/HOLD#, 8 VCC

## NCP380
designator U?
footprint SOT23-6
pins: 1 IN, 2 GND, 3 EN_L, 4 FLAG, 5 ILIM, 6 OUT

## NCP5901B
designator U?
pins: 1 BST, 2 PWM, 3 EN, 4 VCC, 5 DRVL, 6 GND, 7 SW, 8 DRVH, 9 FLAG

## NCV8170
designator U?  (value not drawn)
pins: 1 VIN, 2 GND, 3 VOUT, 4 NC, 5 GND, 6 CE